# Altium schematic symbol library MCU_ST_STM32G0.SchLib: 228 symbols (part 3 of 5)
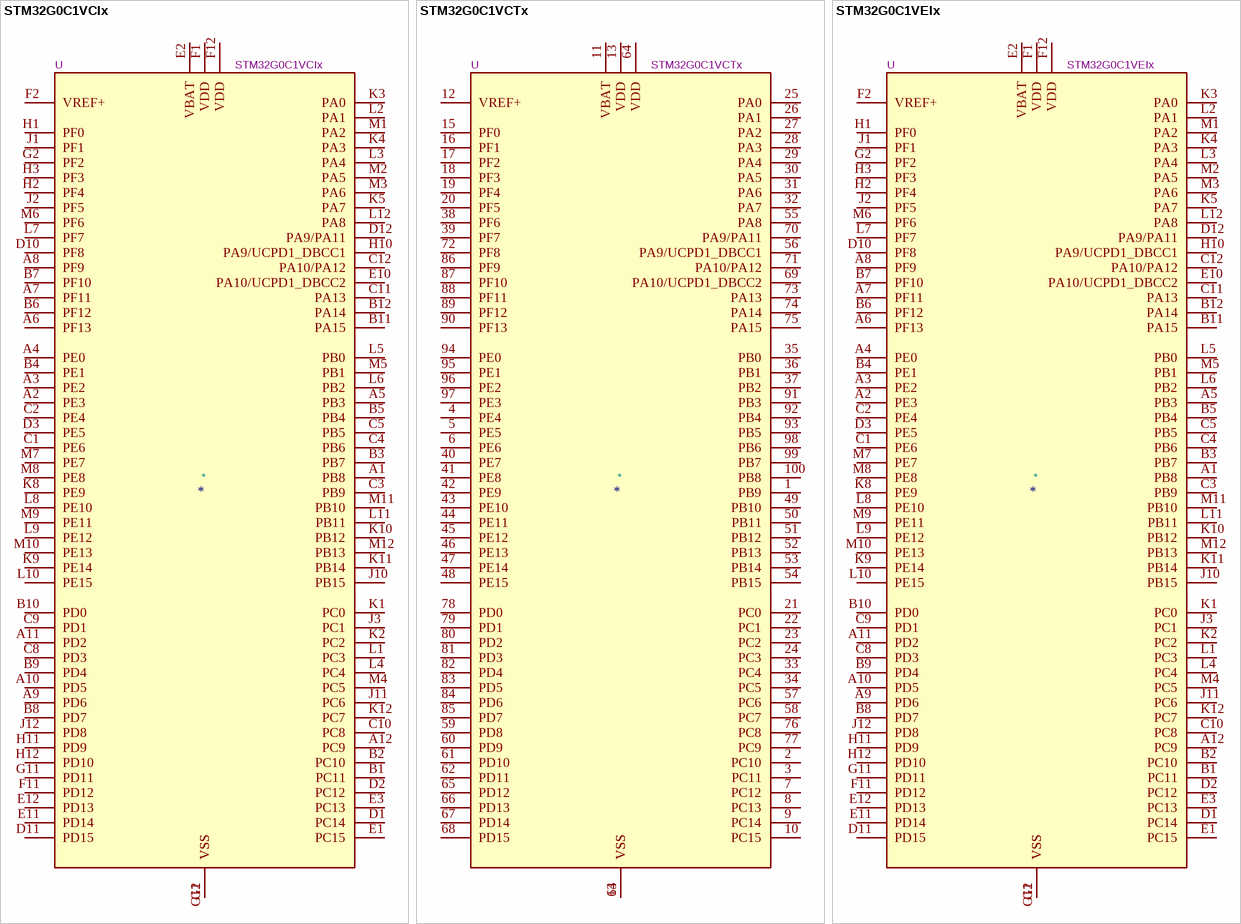
[diagram p25: symbols STM32G0C1VCIx to STM32G0C1VEIx]

## STM32G0C1VCIx
designator *  value STM32G0C1VCIx  Reference: U
STMicroelectronics Arm Cortex-M0+ MCU, 256KB flash, 144KB RAM, 64 MHz, 1.7-3.6V, 94 GPIO, UFBGA100; ki_keywords: Arm Cortex-M0+ STM32G0 STM32G0x1; ki_fp_filters: UFBGA*7x7mm*Layout12x12*P0.5mm*; Footprint: Package_BGA:UFBGA-100_7x7mm_Layout12x12_P0.5mm; Datasheet: https://www.st.com/resource/en/datasheet/stm32g0c1vc.pdf; Description_: STMicroelectronics Arm Cortex-M0+ MCU, 256KB flash, 144KB RAM, 64 MHz, 1.7-3.6V, 94 GPIO, UFBGA100
pins: A1 PB8, A2 PE3, A3 PE2, A4 PE0, A5 PB3, A6 PF13, A7 PF11, A8 PF9, A9 PD6, A10 PD5, A11 PD2, A12 PC9, B1 PC11, B2 PC10, B3 PB7, B4 PE1, B5 PB4, B6 PF12, B7 PF10, B8 PD7, B9 PD4, B10 PD0, B11 PA15, B12 PA14, C1 PE6, C2 PE4, C3 PB9, C4 PB6, C5 PB5, C8 PD3, C9 PD1, C10 PC8, C11 PA13, C12 PA10/PA12, D1 PC14, D2 PC12, D3 PE5, D10 PF8, D11 PD15, D12 PA9/PA11, E1 PC15, E2 VBAT, E3 PC13, E10 PA10/UCPD1_DBCC2, E11 PD14, E12 PD13, F1 VDD, F2 VREF+, F11 PD12, F12 VDD, G1 VSS, G2 PF2, G11 PD11, G12 VSS, H1 PF0, H2 PF4, H3 PF3, H10 PA9/UCPD1_DBCC1, H11 PD9, H12 PD10, J1 PF1, J2 PF5, J3 PC1, J10 PB15, J11 PC6, J12 PD8, K1 PC0, K2 PC2, K3 PA0, K4 PA3, K5 PA7, K8 PE9, K9 PE14, K10 PB12, K11 PB14, K12 PC7, L1 PC3, L2 PA1, L3 PA4, L4 PC4, L5 PB0, L6 PB2, L7 PF7, L8 PE10, L9 PE12, L10 PE15, L11 PB11, L12 PA8, M1 PA2, M2 PA5, M3 PA6, M4 PC5, M5 PB1, M6 PF6, M7 PE7, M8 PE8, M9 PE11, M10 PE13, M11 PB10, M12 PB13

## STM32G0C1VCTx
designator *  value STM32G0C1VCTx  Reference: U
STMicroelectronics Arm Cortex-M0+ MCU, 256KB flash, 144KB RAM, 64 MHz, 1.7-3.6V, 94 GPIO, LQFP100; ki_keywords: Arm Cortex-M0+ STM32G0 STM32G0x1; ki_fp_filters: LQFP*14x14mm*P0.5mm*; Footprint: Package_QFP:LQFP-100_14x14mm_P0.5mm; Datasheet: https://www.st.com/resource/en/datasheet/stm32g0c1vc.pdf; Description_: STMicroelectronics Arm Cortex-M0+ MCU, 256KB flash, 144KB RAM, 64 MHz, 1.7-3.6V, 94 GPIO, LQFP100
pins: 1 PB9, 2 PC10, 3 PC11, 4 PE4, 5 PE5, 6 PE6, 7 PC12, 8 PC13, 9 PC14, 10 PC15, 11 VBAT, 12 VREF+, 13 VDD, 14 VSS, 15 PF0, 16 PF1, 17 PF2, 18 PF3, 19 PF4, 20 PF5, 21 PC0, 22 PC1, 23 PC2, 24 PC3, 25 PA0, 26 PA1, 27 PA2, 28 PA3, 29 PA4, 30 PA5, 31 PA6, 32 PA7, 33 PC4, 34 PC5, 35 PB0, 36 PB1, 37 PB2, 38 PF6, 39 PF7, 40 PE7, 41 PE8, 42 PE9, 43 PE10, 44 PE11, 45 PE12, 46 PE13, 47 PE14, 48 PE15, 49 PB10, 50 PB11, 51 PB12, 52 PB13, 53 PB14, 54 PB15, 55 PA8, 56 PA9/UCPD1_DBCC1, 57 PC6, 58 PC7, 59 PD8, 60 PD9, 61 PD10, 62 PD11, 63 VSS, 64 VDD, 65 PD12, 66 PD13, 67 PD14, 68 PD15, 69 PA10/UCPD1_DBCC2, 70 PA9/PA11, 71 PA10/PA12, 72 PF8, 73 PA13, 74 PA14, 75 PA15, 76 PC8, 77 PC9, 78 PD0, 79 PD1, 80 PD2, 81 PD3, 82 PD4, 83 PD5, 84 PD6, 85 PD7, 86 PF9, 87 PF10, 88 PF11, 89 PF12, 90 PF13, 91 PB3, 92 PB4, 93 PB5, 94 PE0, 95 PE1, 96 PE2, 97 PE3, 98 PB6, 99 PB7, 100 PB8

## STM32G0C1VEIx
designator *  value STM32G0C1VEIx  Reference: U
STMicroelectronics Arm Cortex-M0+ MCU, 512KB flash, 144KB RAM, 64 MHz, 1.7-3.6V, 94 GPIO, UFBGA100; ki_keywords: Arm Cortex-M0+ STM32G0 STM32G0x1; ki_fp_filters: UFBGA*7x7mm*Layout12x12*P0.5mm*; Footprint: Package_BGA:UFBGA-100_7x7mm_Layout12x12_P0.5mm; Datasheet: https://www.st.com/resource/en/datasheet/stm32g0c1ve.pdf; Description_: STMicroelectronics Arm Cortex-M0+ MCU, 512KB flash, 144KB RAM, 64 MHz, 1.7-3.6V, 94 GPIO, UFBGA100
pins: A1 PB8, A2 PE3, A3 PE2, A4 PE0, A5 PB3, A6 PF13, A7 PF11, A8 PF9, A9 PD6, A10 PD5, A11 PD2, A12 PC9, B1 PC11, B2 PC10, B3 PB7, B4 PE1, B5 PB4, B6 PF12, B7 PF10, B8 PD7, B9 PD4, B10 PD0, B11 PA15, B12 PA14, C1 PE6, C2 PE4, C3 PB9, C4 PB6, C5 PB5, C8 PD3, C9 PD1, C10 PC8, C11 PA13, C12 PA10/PA12, D1 PC14, D2 PC12, D3 PE5, D10 PF8, D11 PD15, D12 PA9/PA11, E1 PC15, E2 VBAT, E3 PC13, E10 PA10/UCPD1_DBCC2, E11 PD14, E12 PD13, F1 VDD, F2 VREF+, F11 PD12, F12 VDD, G1 VSS, G2 PF2, G11 PD11, G12 VSS, H1 PF0, H2 PF4, H3 PF3, H10 PA9/UCPD1_DBCC1, H11 PD9, H12 PD10, J1 PF1, J2 PF5, J3 PC1, J10 PB15, J11 PC6, J12 PD8, K1 PC0, K2 PC2, K3 PA0, K4 PA3, K5 PA7, K8 PE9, K9 PE14, K10 PB12, K11 PB14, K12 PC7, L1 PC3, L2 PA1, L3 PA4, L4 PC4, L5 PB0, L6 PB2, L7 PF7, L8 PE10, L9 PE12, L10 PE15, L11 PB11, L12 PA8, M1 PA2, M2 PA5, M3 PA6, M4 PC5, M5 PB1, M6 PF6, M7 PE7, M8 PE8, M9 PE11, M10 PE13, M11 PB10, M12 PB13

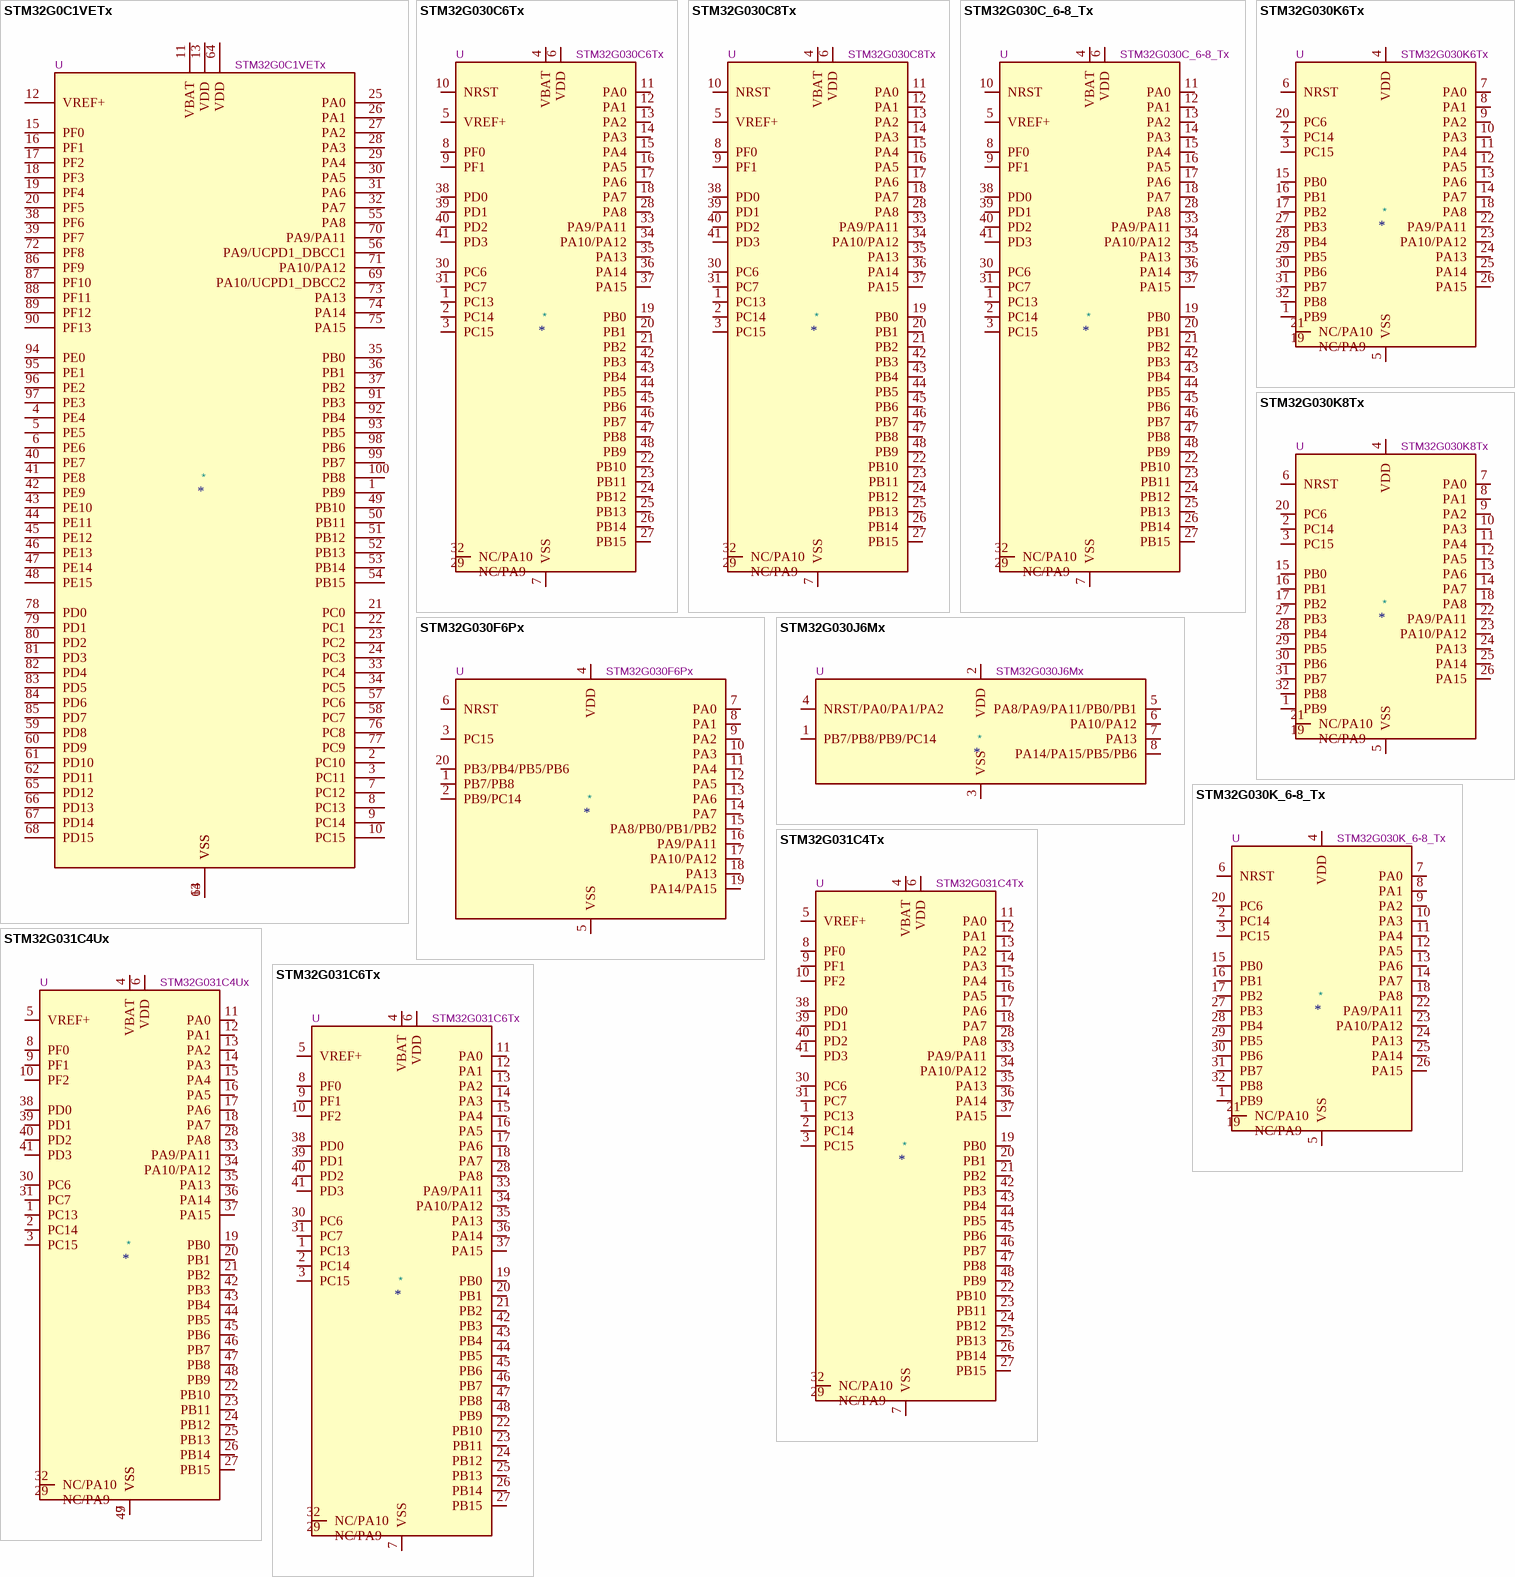
[diagram p14: symbols STM32G0C1VETx to STM32G031C6Tx]

## STM32G0C1VETx
designator *  value STM32G0C1VETx  Reference: U
STMicroelectronics Arm Cortex-M0+ MCU, 512KB flash, 144KB RAM, 64 MHz, 1.7-3.6V, 94 GPIO, LQFP100; ki_keywords: Arm Cortex-M0+ STM32G0 STM32G0x1; ki_fp_filters: LQFP*14x14mm*P0.5mm*; Footprint: Package_QFP:LQFP-100_14x14mm_P0.5mm; Datasheet: https://www.st.com/resource/en/datasheet/stm32g0c1ve.pdf; Description_: STMicroelectronics Arm Cortex-M0+ MCU, 512KB flash, 144KB RAM, 64 MHz, 1.7-3.6V, 94 GPIO, LQFP100
pins: 1 PB9, 2 PC10, 3 PC11, 4 PE4, 5 PE5, 6 PE6, 7 PC12, 8 PC13, 9 PC14, 10 PC15, 11 VBAT, 12 VREF+, 13 VDD, 14 VSS, 15 PF0, 16 PF1, 17 PF2, 18 PF3, 19 PF4, 20 PF5, 21 PC0, 22 PC1, 23 PC2, 24 PC3, 25 PA0, 26 PA1, 27 PA2, 28 PA3, 29 PA4, 30 PA5, 31 PA6, 32 PA7, 33 PC4, 34 PC5, 35 PB0, 36 PB1, 37 PB2, 38 PF6, 39 PF7, 40 PE7, 41 PE8, 42 PE9, 43 PE10, 44 PE11, 45 PE12, 46 PE13, 47 PE14, 48 PE15, 49 PB10, 50 PB11, 51 PB12, 52 PB13, 53 PB14, 54 PB15, 55 PA8, 56 PA9/UCPD1_DBCC1, 57 PC6, 58 PC7, 59 PD8, 60 PD9, 61 PD10, 62 PD11, 63 VSS, 64 VDD, 65 PD12, 66 PD13, 67 PD14, 68 PD15, 69 PA10/UCPD1_DBCC2, 70 PA9/PA11, 71 PA10/PA12, 72 PF8, 73 PA13, 74 PA14, 75 PA15, 76 PC8, 77 PC9, 78 PD0, 79 PD1, 80 PD2, 81 PD3, 82 PD4, 83 PD5, 84 PD6, 85 PD7, 86 PF9, 87 PF10, 88 PF11, 89 PF12, 90 PF13, 91 PB3, 92 PB4, 93 PB5, 94 PE0, 95 PE1, 96 PE2, 97 PE3, 98 PB6, 99 PB7, 100 PB8

## STM32G030C6Tx
designator *  value STM32G030C6Tx  Reference: U
STMicroelectronics Arm Cortex-M0+ MCU, 32KB flash, 8KB RAM, 64 MHz, 2.0-3.6V, 43 GPIO, LQFP48; ki_keywords: Arm Cortex-M0+ STM32G0 STM32G0x0 Value line; ki_fp_filters: LQFP*7x7mm*P0.5mm*; Footprint: Package_QFP:LQFP-48_7x7mm_P0.5mm; Datasheet: https://www.st.com/resource/en/datasheet/stm32g030c6.pdf; Description_: STMicroelectronics Arm Cortex-M0+ MCU, 32KB flash, 8KB RAM, 64 MHz, 2.0-3.6V, 43 GPIO, LQFP48
pins: 1 PC13, 2 PC14, 3 PC15, 4 VBAT, 5 VREF+, 6 VDD, 7 VSS, 8 PF0, 9 PF1, 10 NRST, 11 PA0, 12 PA1, 13 PA2, 14 PA3, 15 PA4, 16 PA5, 17 PA6, 18 PA7, 19 PB0, 20 PB1, 21 PB2, 22 PB10, 23 PB11, 24 PB12, 25 PB13, 26 PB14, 27 PB15, 28 PA8, 29 NC/PA9, 30 PC6, 31 PC7, 32 NC/PA10, 33 PA9/PA11, 34 PA10/PA12, 35 PA13, 36 PA14, 37 PA15, 38 PD0, 39 PD1, 40 PD2, 41 PD3, 42 PB3, 43 PB4, 44 PB5, 45 PB6, 46 PB7, 47 PB8, 48 PB9

## STM32G030C8Tx
designator *  value STM32G030C8Tx  Reference: U
STMicroelectronics Arm Cortex-M0+ MCU, 64KB flash, 8KB RAM, 64 MHz, 2.0-3.6V, 43 GPIO, LQFP48; ki_keywords: Arm Cortex-M0+ STM32G0 STM32G0x0 Value line; ki_fp_filters: LQFP*7x7mm*P0.5mm*; Footprint: Package_QFP:LQFP-48_7x7mm_P0.5mm; Datasheet: https://www.st.com/resource/en/datasheet/stm32g030c8.pdf; Description_: STMicroelectronics Arm Cortex-M0+ MCU, 64KB flash, 8KB RAM, 64 MHz, 2.0-3.6V, 43 GPIO, LQFP48
pins: 1 PC13, 2 PC14, 3 PC15, 4 VBAT, 5 VREF+, 6 VDD, 7 VSS, 8 PF0, 9 PF1, 10 NRST, 11 PA0, 12 PA1, 13 PA2, 14 PA3, 15 PA4, 16 PA5, 17 PA6, 18 PA7, 19 PB0, 20 PB1, 21 PB2, 22 PB10, 23 PB11, 24 PB12, 25 PB13, 26 PB14, 27 PB15, 28 PA8, 29 NC/PA9, 30 PC6, 31 PC7, 32 NC/PA10, 33 PA9/PA11, 34 PA10/PA12, 35 PA13, 36 PA14, 37 PA15, 38 PD0, 39 PD1, 40 PD2, 41 PD3, 42 PB3, 43 PB4, 44 PB5, 45 PB6, 46 PB7, 47 PB8, 48 PB9

## STM32G030C_6-8_Tx
designator *  value STM32G030C_6-8_Tx  Reference: U
STMicroelectronics Arm Cortex-M0+ MCU, 32-64KB flash, 8KB RAM, 64 MHz, 2.0-3.6V, 43 GPIO, LQFP48; ki_keywords: Arm Cortex-M0+ STM32G0 STM32G0x0 Value line; ki_fp_filters: LQFP*7x7mm*P0.5mm*; Footprint: Package_QFP:LQFP-48_7x7mm_P0.5mm; Datasheet: https://www.st.com/resource/en/datasheet/stm32g030c6.pdf; Description_: STMicroelectronics Arm Cortex-M0+ MCU, 32-64KB flash, 8KB RAM, 64 MHz, 2.0-3.6V, 43 GPIO, LQFP48
pins: 1 PC13, 2 PC14, 3 PC15, 4 VBAT, 5 VREF+, 6 VDD, 7 VSS, 8 PF0, 9 PF1, 10 NRST, 11 PA0, 12 PA1, 13 PA2, 14 PA3, 15 PA4, 16 PA5, 17 PA6, 18 PA7, 19 PB0, 20 PB1, 21 PB2, 22 PB10, 23 PB11, 24 PB12, 25 PB13, 26 PB14, 27 PB15, 28 PA8, 29 NC/PA9, 30 PC6, 31 PC7, 32 NC/PA10, 33 PA9/PA11, 34 PA10/PA12, 35 PA13, 36 PA14, 37 PA15, 38 PD0, 39 PD1, 40 PD2, 41 PD3, 42 PB3, 43 PB4, 44 PB5, 45 PB6, 46 PB7, 47 PB8, 48 PB9

## STM32G030F6Px
designator *  value STM32G030F6Px  Reference: U
STMicroelectronics Arm Cortex-M0+ MCU, 32KB flash, 8KB RAM, 64 MHz, 2.0-3.6V, 17 GPIO, TSSOP20; ki_keywords: Arm Cortex-M0+ STM32G0 STM32G0x0 Value line; ki_fp_filters: TSSOP*4.4x6.5mm*P0.65mm*; Footprint: Package_SO:TSSOP-20_4.4x6.5mm_P0.65mm; Datasheet: https://www.st.com/resource/en/datasheet/stm32g030f6.pdf; Description_: STMicroelectronics Arm Cortex-M0+ MCU, 32KB flash, 8KB RAM, 64 MHz, 2.0-3.6V, 17 GPIO, TSSOP20
pins: 1 PB7/PB8, 2 PB9/PC14, 3 PC15, 4 VDD, 5 VSS, 6 NRST, 7 PA0, 8 PA1, 9 PA2, 10 PA3, 11 PA4, 12 PA5, 13 PA6, 14 PA7, 15 PA8/PB0/PB1/PB2, 16 PA9/PA11, 17 PA10/PA12, 18 PA13, 19 PA14/PA15, 20 PB3/PB4/PB5/PB6

## STM32G030J6Mx
designator *  value STM32G030J6Mx  Reference: U
STMicroelectronics Arm Cortex-M0+ MCU, 32KB flash, 8KB RAM, 64 MHz, 2.0-3.6V, 6 GPIO, SO8N; ki_keywords: Arm Cortex-M0+ STM32G0 STM32G0x0 Value line; ki_fp_filters: SO*3.9x4.9mm*P1.27mm*; Footprint: Package_SO:SOIC-8_3.9x4.9mm_P1.27mm; Datasheet: https://www.st.com/resource/en/datasheet/stm32g030j6.pdf; Description_: STMicroelectronics Arm Cortex-M0+ MCU, 32KB flash, 8KB RAM, 64 MHz, 2.0-3.6V, 6 GPIO, SO8N
pins: 1 PB7/PB8/PB9/PC14, 2 VDD, 3 VSS, 4 NRST/PA0/PA1/PA2, 5 PA8/PA9/PA11/PB0/PB1, 6 PA10/PA12, 7 PA13, 8 PA14/PA15/PB5/PB6

## STM32G030K6Tx
designator *  value STM32G030K6Tx  Reference: U
STMicroelectronics Arm Cortex-M0+ MCU, 32KB flash, 8KB RAM, 64 MHz, 2.0-3.6V, 29 GPIO, LQFP32; ki_keywords: Arm Cortex-M0+ STM32G0 STM32G0x0 Value line; ki_fp_filters: LQFP*7x7mm*P0.8mm*; Footprint: Package_QFP:LQFP-32_7x7mm_P0.8mm; Datasheet: https://www.st.com/resource/en/datasheet/stm32g030k6.pdf; Description_: STMicroelectronics Arm Cortex-M0+ MCU, 32KB flash, 8KB RAM, 64 MHz, 2.0-3.6V, 29 GPIO, LQFP32
pins: 1 PB9, 2 PC14, 3 PC15, 4 VDD, 5 VSS, 6 NRST, 7 PA0, 8 PA1, 9 PA2, 10 PA3, 11 PA4, 12 PA5, 13 PA6, 14 PA7, 15 PB0, 16 PB1, 17 PB2, 18 PA8, 19 NC/PA9, 20 PC6, 21 NC/PA10, 22 PA9/PA11, 23 PA10/PA12, 24 PA13, 25 PA14, 26 PA15, 27 PB3, 28 PB4, 29 PB5, 30 PB6, 31 PB7, 32 PB8

## STM32G030K8Tx
designator *  value STM32G030K8Tx  Reference: U
STMicroelectronics Arm Cortex-M0+ MCU, 64KB flash, 8KB RAM, 64 MHz, 2.0-3.6V, 29 GPIO, LQFP32; ki_keywords: Arm Cortex-M0+ STM32G0 STM32G0x0 Value line; ki_fp_filters: LQFP*7x7mm*P0.8mm*; Footprint: Package_QFP:LQFP-32_7x7mm_P0.8mm; Datasheet: https://www.st.com/resource/en/datasheet/stm32g030k8.pdf; Description_: STMicroelectronics Arm Cortex-M0+ MCU, 64KB flash, 8KB RAM, 64 MHz, 2.0-3.6V, 29 GPIO, LQFP32
pins: 1 PB9, 2 PC14, 3 PC15, 4 VDD, 5 VSS, 6 NRST, 7 PA0, 8 PA1, 9 PA2, 10 PA3, 11 PA4, 12 PA5, 13 PA6, 14 PA7, 15 PB0, 16 PB1, 17 PB2, 18 PA8, 19 NC/PA9, 20 PC6, 21 NC/PA10, 22 PA9/PA11, 23 PA10/PA12, 24 PA13, 25 PA14, 26 PA15, 27 PB3, 28 PB4, 29 PB5, 30 PB6, 31 PB7, 32 PB8

## STM32G030K_6-8_Tx
designator *  value STM32G030K_6-8_Tx  Reference: U
STMicroelectronics Arm Cortex-M0+ MCU, 32-64KB flash, 8KB RAM, 64 MHz, 2.0-3.6V, 29 GPIO, LQFP32; ki_keywords: Arm Cortex-M0+ STM32G0 STM32G0x0 Value line; ki_fp_filters: LQFP*7x7mm*P0.8mm*; Footprint: Package_QFP:LQFP-32_7x7mm_P0.8mm; Datasheet: https://www.st.com/resource/en/datasheet/stm32g030k6.pdf; Description_: STMicroelectronics Arm Cortex-M0+ MCU, 32-64KB flash, 8KB RAM, 64 MHz, 2.0-3.6V, 29 GPIO, LQFP32
pins: 1 PB9, 2 PC14, 3 PC15, 4 VDD, 5 VSS, 6 NRST, 7 PA0, 8 PA1, 9 PA2, 10 PA3, 11 PA4, 12 PA5, 13 PA6, 14 PA7, 15 PB0, 16 PB1, 17 PB2, 18 PA8, 19 NC/PA9, 20 PC6, 21 NC/PA10, 22 PA9/PA11, 23 PA10/PA12, 24 PA13, 25 PA14, 26 PA15, 27 PB3, 28 PB4, 29 PB5, 30 PB6, 31 PB7, 32 PB8

## STM32G031C4Tx
designator *  value STM32G031C4Tx  Reference: U
STMicroelectronics Arm Cortex-M0+ MCU, 16KB flash, 8KB RAM, 64 MHz, 1.7-3.6V, 44 GPIO, LQFP48; ki_keywords: Arm Cortex-M0+ STM32G0 STM32G0x1; ki_fp_filters: LQFP*7x7mm*P0.5mm*; Footprint: Package_QFP:LQFP-48_7x7mm_P0.5mm; Datasheet: https://www.st.com/resource/en/datasheet/stm32g031c4.pdf; Description_: STMicroelectronics Arm Cortex-M0+ MCU, 16KB flash, 8KB RAM, 64 MHz, 1.7-3.6V, 44 GPIO, LQFP48
pins: 1 PC13, 2 PC14, 3 PC15, 4 VBAT, 5 VREF+, 6 VDD, 7 VSS, 8 PF0, 9 PF1, 10 PF2, 11 PA0, 12 PA1, 13 PA2, 14 PA3, 15 PA4, 16 PA5, 17 PA6, 18 PA7, 19 PB0, 20 PB1, 21 PB2, 22 PB10, 23 PB11, 24 PB12, 25 PB13, 26 PB14, 27 PB15, 28 PA8, 29 NC/PA9, 30 PC6, 31 PC7, 32 NC/PA10, 33 PA9/PA11, 34 PA10/PA12, 35 PA13, 36 PA14, 37 PA15, 38 PD0, 39 PD1, 40 PD2, 41 PD3, 42 PB3, 43 PB4, 44 PB5, 45 PB6, 46 PB7, 47 PB8, 48 PB9

## STM32G031C4Ux
designator *  value STM32G031C4Ux  Reference: U
STMicroelectronics Arm Cortex-M0+ MCU, 16KB flash, 8KB RAM, 64 MHz, 1.7-3.6V, 44 GPIO, UFQFPN48; ki_keywords: Arm Cortex-M0+ STM32G0 STM32G0x1; ki_fp_filters: QFN*1EP*7x7mm*P0.5mm*; Footprint: Package_DFN_QFN:QFN-48-1EP_7x7mm_P0.5mm_EP5.6x5.6mm; Datasheet: https://www.st.com/resource/en/datasheet/stm32g031c4.pdf; Description_: STMicroelectronics Arm Cortex-M0+ MCU, 16KB flash, 8KB RAM, 64 MHz, 1.7-3.6V, 44 GPIO, UFQFPN48
pins: 1 PC13, 2 PC14, 3 PC15, 4 VBAT, 5 VREF+, 6 VDD, 7 VSS, 8 PF0, 9 PF1, 10 PF2, 11 PA0, 12 PA1, 13 PA2, 14 PA3, 15 PA4, 16 PA5, 17 PA6, 18 PA7, 19 PB0, 20 PB1, 21 PB2, 22 PB10, 23 PB11, 24 PB12, 25 PB13, 26 PB14, 27 PB15, 28 PA8, 29 NC/PA9, 30 PC6, 31 PC7, 32 NC/PA10, 33 PA9/PA11, 34 PA10/PA12, 35 PA13, 36 PA14, 37 PA15, 38 PD0, 39 PD1, 40 PD2, 41 PD3, 42 PB3, 43 PB4, 44 PB5, 45 PB6, 46 PB7, 47 PB8, 48 PB9, 49 VSS

## STM32G031C6Tx
designator *  value STM32G031C6Tx  Reference: U
STMicroelectronics Arm Cortex-M0+ MCU, 32KB flash, 8KB RAM, 64 MHz, 1.7-3.6V, 44 GPIO, LQFP48; ki_keywords: Arm Cortex-M0+ STM32G0 STM32G0x1; ki_fp_filters: LQFP*7x7mm*P0.5mm*; Footprint: Package_QFP:LQFP-48_7x7mm_P0.5mm; Datasheet: https://www.st.com/resource/en/datasheet/stm32g031c6.pdf; Description_: STMicroelectronics Arm Cortex-M0+ MCU, 32KB flash, 8KB RAM, 64 MHz, 1.7-3.6V, 44 GPIO, LQFP48
pins: 1 PC13, 2 PC14, 3 PC15, 4 VBAT, 5 VREF+, 6 VDD, 7 VSS, 8 PF0, 9 PF1, 10 PF2, 11 PA0, 12 PA1, 13 PA2, 14 PA3, 15 PA4, 16 PA5, 17 PA6, 18 PA7, 19 PB0, 20 PB1, 21 PB2, 22 PB10, 23 PB11, 24 PB12, 25 PB13, 26 PB14, 27 PB15, 28 PA8, 29 NC/PA9, 30 PC6, 31 PC7, 32 NC/PA10, 33 PA9/PA11, 34 PA10/PA12, 35 PA13, 36 PA14, 37 PA15, 38 PD0, 39 PD1, 40 PD2, 41 PD3, 42 PB3, 43 PB4, 44 PB5, 45 PB6, 46 PB7, 47 PB8, 48 PB9

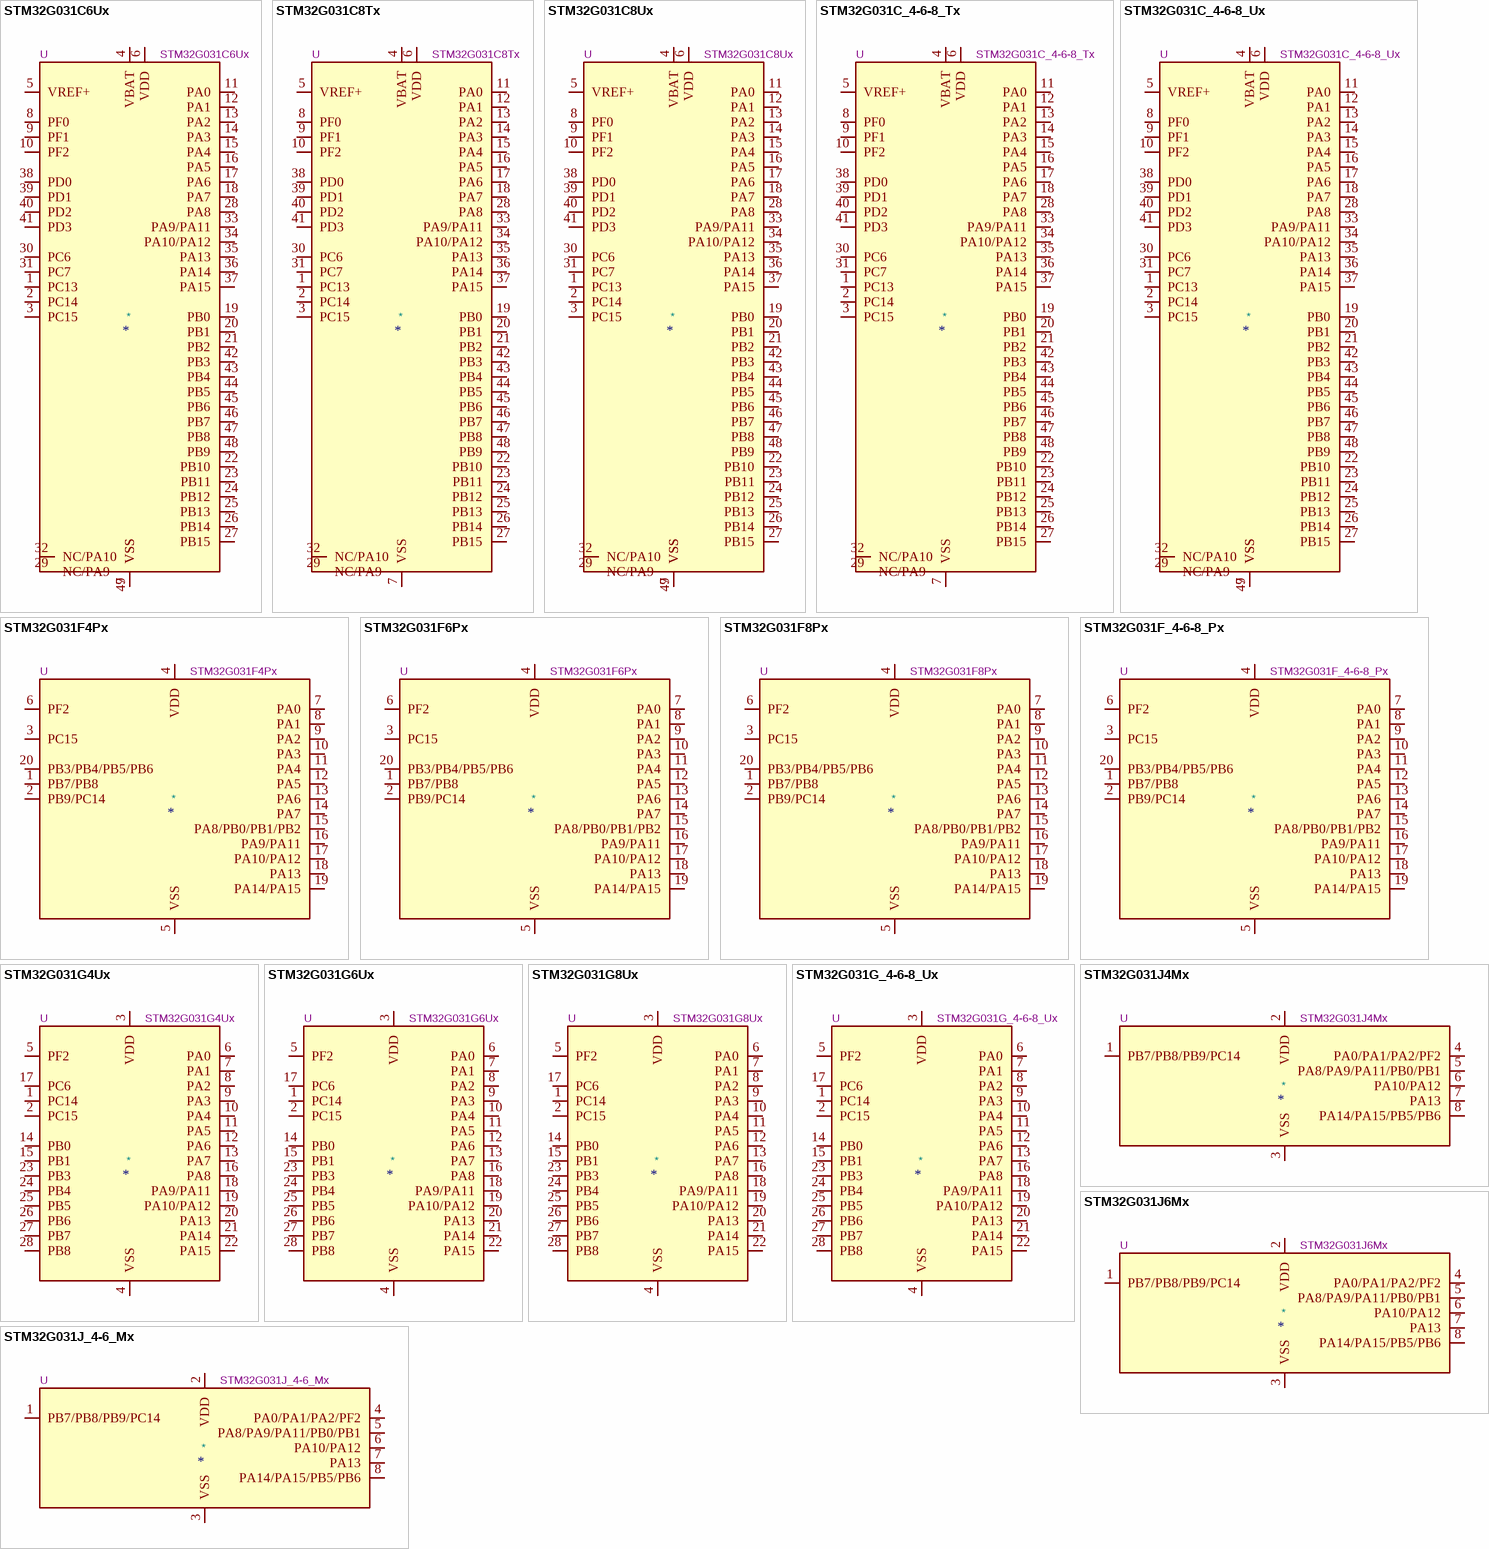
[diagram p15: symbols STM32G031C6Ux to STM32G031J_4-6_Mx]

## STM32G031C6Ux
designator *  value STM32G031C6Ux  Reference: U
STMicroelectronics Arm Cortex-M0+ MCU, 32KB flash, 8KB RAM, 64 MHz, 1.7-3.6V, 44 GPIO, UFQFPN48; ki_keywords: Arm Cortex-M0+ STM32G0 STM32G0x1; ki_fp_filters: QFN*1EP*7x7mm*P0.5mm*; Footprint: Package_DFN_QFN:QFN-48-1EP_7x7mm_P0.5mm_EP5.6x5.6mm; Datasheet: https://www.st.com/resource/en/datasheet/stm32g031c6.pdf; Description_: STMicroelectronics Arm Cortex-M0+ MCU, 32KB flash, 8KB RAM, 64 MHz, 1.7-3.6V, 44 GPIO, UFQFPN48
pins: 1 PC13, 2 PC14, 3 PC15, 4 VBAT, 5 VREF+, 6 VDD, 7 VSS, 8 PF0, 9 PF1, 10 PF2, 11 PA0, 12 PA1, 13 PA2, 14 PA3, 15 PA4, 16 PA5, 17 PA6, 18 PA7, 19 PB0, 20 PB1, 21 PB2, 22 PB10, 23 PB11, 24 PB12, 25 PB13, 26 PB14, 27 PB15, 28 PA8, 29 NC/PA9, 30 PC6, 31 PC7, 32 NC/PA10, 33 PA9/PA11, 34 PA10/PA12, 35 PA13, 36 PA14, 37 PA15, 38 PD0, 39 PD1, 40 PD2, 41 PD3, 42 PB3, 43 PB4, 44 PB5, 45 PB6, 46 PB7, 47 PB8, 48 PB9, 49 VSS

## STM32G031C8Tx
designator *  value STM32G031C8Tx  Reference: U
STMicroelectronics Arm Cortex-M0+ MCU, 64KB flash, 8KB RAM, 64 MHz, 1.7-3.6V, 44 GPIO, LQFP48; ki_keywords: Arm Cortex-M0+ STM32G0 STM32G0x1; ki_fp_filters: LQFP*7x7mm*P0.5mm*; Footprint: Package_QFP:LQFP-48_7x7mm_P0.5mm; Datasheet: https://www.st.com/resource/en/datasheet/stm32g031c8.pdf; Description_: STMicroelectronics Arm Cortex-M0+ MCU, 64KB flash, 8KB RAM, 64 MHz, 1.7-3.6V, 44 GPIO, LQFP48
pins: 1 PC13, 2 PC14, 3 PC15, 4 VBAT, 5 VREF+, 6 VDD, 7 VSS, 8 PF0, 9 PF1, 10 PF2, 11 PA0, 12 PA1, 13 PA2, 14 PA3, 15 PA4, 16 PA5, 17 PA6, 18 PA7, 19 PB0, 20 PB1, 21 PB2, 22 PB10, 23 PB11, 24 PB12, 25 PB13, 26 PB14, 27 PB15, 28 PA8, 29 NC/PA9, 30 PC6, 31 PC7, 32 NC/PA10, 33 PA9/PA11, 34 PA10/PA12, 35 PA13, 36 PA14, 37 PA15, 38 PD0, 39 PD1, 40 PD2, 41 PD3, 42 PB3, 43 PB4, 44 PB5, 45 PB6, 46 PB7, 47 PB8, 48 PB9

## STM32G031C8Ux
designator *  value STM32G031C8Ux  Reference: U
STMicroelectronics Arm Cortex-M0+ MCU, 64KB flash, 8KB RAM, 64 MHz, 1.7-3.6V, 44 GPIO, UFQFPN48; ki_keywords: Arm Cortex-M0+ STM32G0 STM32G0x1; ki_fp_filters: QFN*1EP*7x7mm*P0.5mm*; Footprint: Package_DFN_QFN:QFN-48-1EP_7x7mm_P0.5mm_EP5.6x5.6mm; Datasheet: https://www.st.com/resource/en/datasheet/stm32g031c8.pdf; Description_: STMicroelectronics Arm Cortex-M0+ MCU, 64KB flash, 8KB RAM, 64 MHz, 1.7-3.6V, 44 GPIO, UFQFPN48
pins: 1 PC13, 2 PC14, 3 PC15, 4 VBAT, 5 VREF+, 6 VDD, 7 VSS, 8 PF0, 9 PF1, 10 PF2, 11 PA0, 12 PA1, 13 PA2, 14 PA3, 15 PA4, 16 PA5, 17 PA6, 18 PA7, 19 PB0, 20 PB1, 21 PB2, 22 PB10, 23 PB11, 24 PB12, 25 PB13, 26 PB14, 27 PB15, 28 PA8, 29 NC/PA9, 30 PC6, 31 PC7, 32 NC/PA10, 33 PA9/PA11, 34 PA10/PA12, 35 PA13, 36 PA14, 37 PA15, 38 PD0, 39 PD1, 40 PD2, 41 PD3, 42 PB3, 43 PB4, 44 PB5, 45 PB6, 46 PB7, 47 PB8, 48 PB9, 49 VSS

## STM32G031C_4-6-8_Tx
designator *  value STM32G031C_4-6-8_Tx  Reference: U
STMicroelectronics Arm Cortex-M0+ MCU, 16-64KB flash, 8KB RAM, 64 MHz, 1.7-3.6V, 44 GPIO, LQFP48; ki_keywords: Arm Cortex-M0+ STM32G0 STM32G0x1; ki_fp_filters: LQFP*7x7mm*P0.5mm*; Footprint: Package_QFP:LQFP-48_7x7mm_P0.5mm; Datasheet: https://www.st.com/resource/en/datasheet/stm32g031c4.pdf; Description_: STMicroelectronics Arm Cortex-M0+ MCU, 16-64KB flash, 8KB RAM, 64 MHz, 1.7-3.6V, 44 GPIO, LQFP48
pins: 1 PC13, 2 PC14, 3 PC15, 4 VBAT, 5 VREF+, 6 VDD, 7 VSS, 8 PF0, 9 PF1, 10 PF2, 11 PA0, 12 PA1, 13 PA2, 14 PA3, 15 PA4, 16 PA5, 17 PA6, 18 PA7, 19 PB0, 20 PB1, 21 PB2, 22 PB10, 23 PB11, 24 PB12, 25 PB13, 26 PB14, 27 PB15, 28 PA8, 29 NC/PA9, 30 PC6, 31 PC7, 32 NC/PA10, 33 PA9/PA11, 34 PA10/PA12, 35 PA13, 36 PA14, 37 PA15, 38 PD0, 39 PD1, 40 PD2, 41 PD3, 42 PB3, 43 PB4, 44 PB5, 45 PB6, 46 PB7, 47 PB8, 48 PB9

## STM32G031C_4-6-8_Ux
designator *  value STM32G031C_4-6-8_Ux  Reference: U
STMicroelectronics Arm Cortex-M0+ MCU, 16-64KB flash, 8KB RAM, 64 MHz, 1.7-3.6V, 44 GPIO, UFQFPN48; ki_keywords: Arm Cortex-M0+ STM32G0 STM32G0x1; ki_fp_filters: QFN*1EP*7x7mm*P0.5mm*; Footprint: Package_DFN_QFN:QFN-48-1EP_7x7mm_P0.5mm_EP5.6x5.6mm; Datasheet: https://www.st.com/resource/en/datasheet/stm32g031c4.pdf; Description_: STMicroelectronics Arm Cortex-M0+ MCU, 16-64KB flash, 8KB RAM, 64 MHz, 1.7-3.6V, 44 GPIO, UFQFPN48
pins: 1 PC13, 2 PC14, 3 PC15, 4 VBAT, 5 VREF+, 6 VDD, 7 VSS, 8 PF0, 9 PF1, 10 PF2, 11 PA0, 12 PA1, 13 PA2, 14 PA3, 15 PA4, 16 PA5, 17 PA6, 18 PA7, 19 PB0, 20 PB1, 21 PB2, 22 PB10, 23 PB11, 24 PB12, 25 PB13, 26 PB14, 27 PB15, 28 PA8, 29 NC/PA9, 30 PC6, 31 PC7, 32 NC/PA10, 33 PA9/PA11, 34 PA10/PA12, 35 PA13, 36 PA14, 37 PA15, 38 PD0, 39 PD1, 40 PD2, 41 PD3, 42 PB3, 43 PB4, 44 PB5, 45 PB6, 46 PB7, 47 PB8, 48 PB9, 49 VSS

## STM32G031F4Px
designator *  value STM32G031F4Px  Reference: U
STMicroelectronics Arm Cortex-M0+ MCU, 16KB flash, 8KB RAM, 64 MHz, 1.7-3.6V, 18 GPIO, TSSOP20; ki_keywords: Arm Cortex-M0+ STM32G0 STM32G0x1; ki_fp_filters: TSSOP*4.4x6.5mm*P0.65mm*; Footprint: Package_SO:TSSOP-20_4.4x6.5mm_P0.65mm; Datasheet: https://www.st.com/resource/en/datasheet/stm32g031f4.pdf; Description_: STMicroelectronics Arm Cortex-M0+ MCU, 16KB flash, 8KB RAM, 64 MHz, 1.7-3.6V, 18 GPIO, TSSOP20
pins: 1 PB7/PB8, 2 PB9/PC14, 3 PC15, 4 VDD, 5 VSS, 6 PF2, 7 PA0, 8 PA1, 9 PA2, 10 PA3, 11 PA4, 12 PA5, 13 PA6, 14 PA7, 15 PA8/PB0/PB1/PB2, 16 PA9/PA11, 17 PA10/PA12, 18 PA13, 19 PA14/PA15, 20 PB3/PB4/PB5/PB6

## STM32G031F6Px
designator *  value STM32G031F6Px  Reference: U
STMicroelectronics Arm Cortex-M0+ MCU, 32KB flash, 8KB RAM, 64 MHz, 1.7-3.6V, 18 GPIO, TSSOP20; ki_keywords: Arm Cortex-M0+ STM32G0 STM32G0x1; ki_fp_filters: TSSOP*4.4x6.5mm*P0.65mm*; Footprint: Package_SO:TSSOP-20_4.4x6.5mm_P0.65mm; Datasheet: https://www.st.com/resource/en/datasheet/stm32g031f6.pdf; Description_: STMicroelectronics Arm Cortex-M0+ MCU, 32KB flash, 8KB RAM, 64 MHz, 1.7-3.6V, 18 GPIO, TSSOP20
pins: 1 PB7/PB8, 2 PB9/PC14, 3 PC15, 4 VDD, 5 VSS, 6 PF2, 7 PA0, 8 PA1, 9 PA2, 10 PA3, 11 PA4, 12 PA5, 13 PA6, 14 PA7, 15 PA8/PB0/PB1/PB2, 16 PA9/PA11, 17 PA10/PA12, 18 PA13, 19 PA14/PA15, 20 PB3/PB4/PB5/PB6

## STM32G031F8Px
designator *  value STM32G031F8Px  Reference: U
STMicroelectronics Arm Cortex-M0+ MCU, 64KB flash, 8KB RAM, 64 MHz, 1.7-3.6V, 18 GPIO, TSSOP20; ki_keywords: Arm Cortex-M0+ STM32G0 STM32G0x1; ki_fp_filters: TSSOP*4.4x6.5mm*P0.65mm*; Footprint: Package_SO:TSSOP-20_4.4x6.5mm_P0.65mm; Datasheet: https://www.st.com/resource/en/datasheet/stm32g031f8.pdf; Description_: STMicroelectronics Arm Cortex-M0+ MCU, 64KB flash, 8KB RAM, 64 MHz, 1.7-3.6V, 18 GPIO, TSSOP20
pins: 1 PB7/PB8, 2 PB9/PC14, 3 PC15, 4 VDD, 5 VSS, 6 PF2, 7 PA0, 8 PA1, 9 PA2, 10 PA3, 11 PA4, 12 PA5, 13 PA6, 14 PA7, 15 PA8/PB0/PB1/PB2, 16 PA9/PA11, 17 PA10/PA12, 18 PA13, 19 PA14/PA15, 20 PB3/PB4/PB5/PB6

## STM32G031F_4-6-8_Px
designator *  value STM32G031F_4-6-8_Px  Reference: U
STMicroelectronics Arm Cortex-M0+ MCU, 16-64KB flash, 8KB RAM, 64 MHz, 1.7-3.6V, 18 GPIO, TSSOP20; ki_keywords: Arm Cortex-M0+ STM32G0 STM32G0x1; ki_fp_filters: TSSOP*4.4x6.5mm*P0.65mm*; Footprint: Package_SO:TSSOP-20_4.4x6.5mm_P0.65mm; Datasheet: https://www.st.com/resource/en/datasheet/stm32g031f4.pdf; Description_: STMicroelectronics Arm Cortex-M0+ MCU, 16-64KB flash, 8KB RAM, 64 MHz, 1.7-3.6V, 18 GPIO, TSSOP20
pins: 1 PB7/PB8, 2 PB9/PC14, 3 PC15, 4 VDD, 5 VSS, 6 PF2, 7 PA0, 8 PA1, 9 PA2, 10 PA3, 11 PA4, 12 PA5, 13 PA6, 14 PA7, 15 PA8/PB0/PB1/PB2, 16 PA9/PA11, 17 PA10/PA12, 18 PA13, 19 PA14/PA15, 20 PB3/PB4/PB5/PB6

## STM32G031G4Ux
designator *  value STM32G031G4Ux  Reference: U
STMicroelectronics Arm Cortex-M0+ MCU, 16KB flash, 8KB RAM, 64 MHz, 1.7-3.6V, 26 GPIO, UFQFPN28; ki_keywords: Arm Cortex-M0+ STM32G0 STM32G0x1; ki_fp_filters: QFN*4x4mm*P0.5mm*; Footprint: Package_DFN_QFN:QFN-28_4x4mm_P0.5mm; Datasheet: https://www.st.com/resource/en/datasheet/stm32g031g4.pdf; Description_: STMicroelectronics Arm Cortex-M0+ MCU, 16KB flash, 8KB RAM, 64 MHz, 1.7-3.6V, 26 GPIO, UFQFPN28
pins: 1 PC14, 2 PC15, 3 VDD, 4 VSS, 5 PF2, 6 PA0, 7 PA1, 8 PA2, 9 PA3, 10 PA4, 11 PA5, 12 PA6, 13 PA7, 14 PB0, 15 PB1, 16 PA8, 17 PC6, 18 PA9/PA11, 19 PA10/PA12, 20 PA13, 21 PA14, 22 PA15, 23 PB3, 24 PB4, 25 PB5, 26 PB6, 27 PB7, 28 PB8

## STM32G031G6Ux
designator *  value STM32G031G6Ux  Reference: U
STMicroelectronics Arm Cortex-M0+ MCU, 32KB flash, 8KB RAM, 64 MHz, 1.7-3.6V, 26 GPIO, UFQFPN28; ki_keywords: Arm Cortex-M0+ STM32G0 STM32G0x1; ki_fp_filters: QFN*4x4mm*P0.5mm*; Footprint: Package_DFN_QFN:QFN-28_4x4mm_P0.5mm; Datasheet: https://www.st.com/resource/en/datasheet/stm32g031g6.pdf; Description_: STMicroelectronics Arm Cortex-M0+ MCU, 32KB flash, 8KB RAM, 64 MHz, 1.7-3.6V, 26 GPIO, UFQFPN28
pins: 1 PC14, 2 PC15, 3 VDD, 4 VSS, 5 PF2, 6 PA0, 7 PA1, 8 PA2, 9 PA3, 10 PA4, 11 PA5, 12 PA6, 13 PA7, 14 PB0, 15 PB1, 16 PA8, 17 PC6, 18 PA9/PA11, 19 PA10/PA12, 20 PA13, 21 PA14, 22 PA15, 23 PB3, 24 PB4, 25 PB5, 26 PB6, 27 PB7, 28 PB8

## STM32G031G8Ux
designator *  value STM32G031G8Ux  Reference: U
STMicroelectronics Arm Cortex-M0+ MCU, 64KB flash, 8KB RAM, 64 MHz, 1.7-3.6V, 26 GPIO, UFQFPN28; ki_keywords: Arm Cortex-M0+ STM32G0 STM32G0x1; ki_fp_filters: QFN*4x4mm*P0.5mm*; Footprint: Package_DFN_QFN:QFN-28_4x4mm_P0.5mm; Datasheet: https://www.st.com/resource/en/datasheet/stm32g031g8.pdf; Description_: STMicroelectronics Arm Cortex-M0+ MCU, 64KB flash, 8KB RAM, 64 MHz, 1.7-3.6V, 26 GPIO, UFQFPN28
pins: 1 PC14, 2 PC15, 3 VDD, 4 VSS, 5 PF2, 6 PA0, 7 PA1, 8 PA2, 9 PA3, 10 PA4, 11 PA5, 12 PA6, 13 PA7, 14 PB0, 15 PB1, 16 PA8, 17 PC6, 18 PA9/PA11, 19 PA10/PA12, 20 PA13, 21 PA14, 22 PA15, 23 PB3, 24 PB4, 25 PB5, 26 PB6, 27 PB7, 28 PB8

## STM32G031G_4-6-8_Ux
designator *  value STM32G031G_4-6-8_Ux  Reference: U
STMicroelectronics Arm Cortex-M0+ MCU, 16-64KB flash, 8KB RAM, 64 MHz, 1.7-3.6V, 26 GPIO, UFQFPN28; ki_keywords: Arm Cortex-M0+ STM32G0 STM32G0x1; ki_fp_filters: QFN*4x4mm*P0.5mm*; Footprint: Package_DFN_QFN:QFN-28_4x4mm_P0.5mm; Datasheet: https://www.st.com/resource/en/datasheet/stm32g031g4.pdf; Description_: STMicroelectronics Arm Cortex-M0+ MCU, 16-64KB flash, 8KB RAM, 64 MHz, 1.7-3.6V, 26 GPIO, UFQFPN28
pins: 1 PC14, 2 PC15, 3 VDD, 4 VSS, 5 PF2, 6 PA0, 7 PA1, 8 PA2, 9 PA3, 10 PA4, 11 PA5, 12 PA6, 13 PA7, 14 PB0, 15 PB1, 16 PA8, 17 PC6, 18 PA9/PA11, 19 PA10/PA12, 20 PA13, 21 PA14, 22 PA15, 23 PB3, 24 PB4, 25 PB5, 26 PB6, 27 PB7, 28 PB8

## STM32G031J4Mx
designator *  value STM32G031J4Mx  Reference: U
STMicroelectronics Arm Cortex-M0+ MCU, 16KB flash, 8KB RAM, 64 MHz, 1.7-3.6V, 6 GPIO, SO8N; ki_keywords: Arm Cortex-M0+ STM32G0 STM32G0x1; ki_fp_filters: SO*3.9x4.9mm*P1.27mm*; Footprint: Package_SO:SOIC-8_3.9x4.9mm_P1.27mm; Datasheet: https://www.st.com/resource/en/datasheet/stm32g031j4.pdf; Description_: STMicroelectronics Arm Cortex-M0+ MCU, 16KB flash, 8KB RAM, 64 MHz, 1.7-3.6V, 6 GPIO, SO8N
pins: 1 PB7/PB8/PB9/PC14, 2 VDD, 3 VSS, 4 PA0/PA1/PA2/PF2, 5 PA8/PA9/PA11/PB0/PB1, 6 PA10/PA12, 7 PA13, 8 PA14/PA15/PB5/PB6

## STM32G031J6Mx
designator *  value STM32G031J6Mx  Reference: U
STMicroelectronics Arm Cortex-M0+ MCU, 32KB flash, 8KB RAM, 64 MHz, 1.7-3.6V, 6 GPIO, SO8N; ki_keywords: Arm Cortex-M0+ STM32G0 STM32G0x1; ki_fp_filters: SO*3.9x4.9mm*P1.27mm*; Footprint: Package_SO:SOIC-8_3.9x4.9mm_P1.27mm; Datasheet: https://www.st.com/resource/en/datasheet/stm32g031j6.pdf; Description_: STMicroelectronics Arm Cortex-M0+ MCU, 32KB flash, 8KB RAM, 64 MHz, 1.7-3.6V, 6 GPIO, SO8N
pins: 1 PB7/PB8/PB9/PC14, 2 VDD, 3 VSS, 4 PA0/PA1/PA2/PF2, 5 PA8/PA9/PA11/PB0/PB1, 6 PA10/PA12, 7 PA13, 8 PA14/PA15/PB5/PB6

## STM32G031J_4-6_Mx
designator *  value STM32G031J_4-6_Mx  Reference: U
STMicroelectronics Arm Cortex-M0+ MCU, 16-32KB flash, 8KB RAM, 64 MHz, 1.7-3.6V, 6 GPIO, SO8N; ki_keywords: Arm Cortex-M0+ STM32G0 STM32G0x1; ki_fp_filters: SO*3.9x4.9mm*P1.27mm*; Footprint: Package_SO:SOIC-8_3.9x4.9mm_P1.27mm; Datasheet: https://www.st.com/resource/en/datasheet/stm32g031j4.pdf; Description_: STMicroelectronics Arm Cortex-M0+ MCU, 16-32KB flash, 8KB RAM, 64 MHz, 1.7-3.6V, 6 GPIO, SO8N
pins: 1 PB7/PB8/PB9/PC14, 2 VDD, 3 VSS, 4 PA0/PA1/PA2/PF2, 5 PA8/PA9/PA11/PB0/PB1, 6 PA10/PA12, 7 PA13, 8 PA14/PA15/PB5/PB6

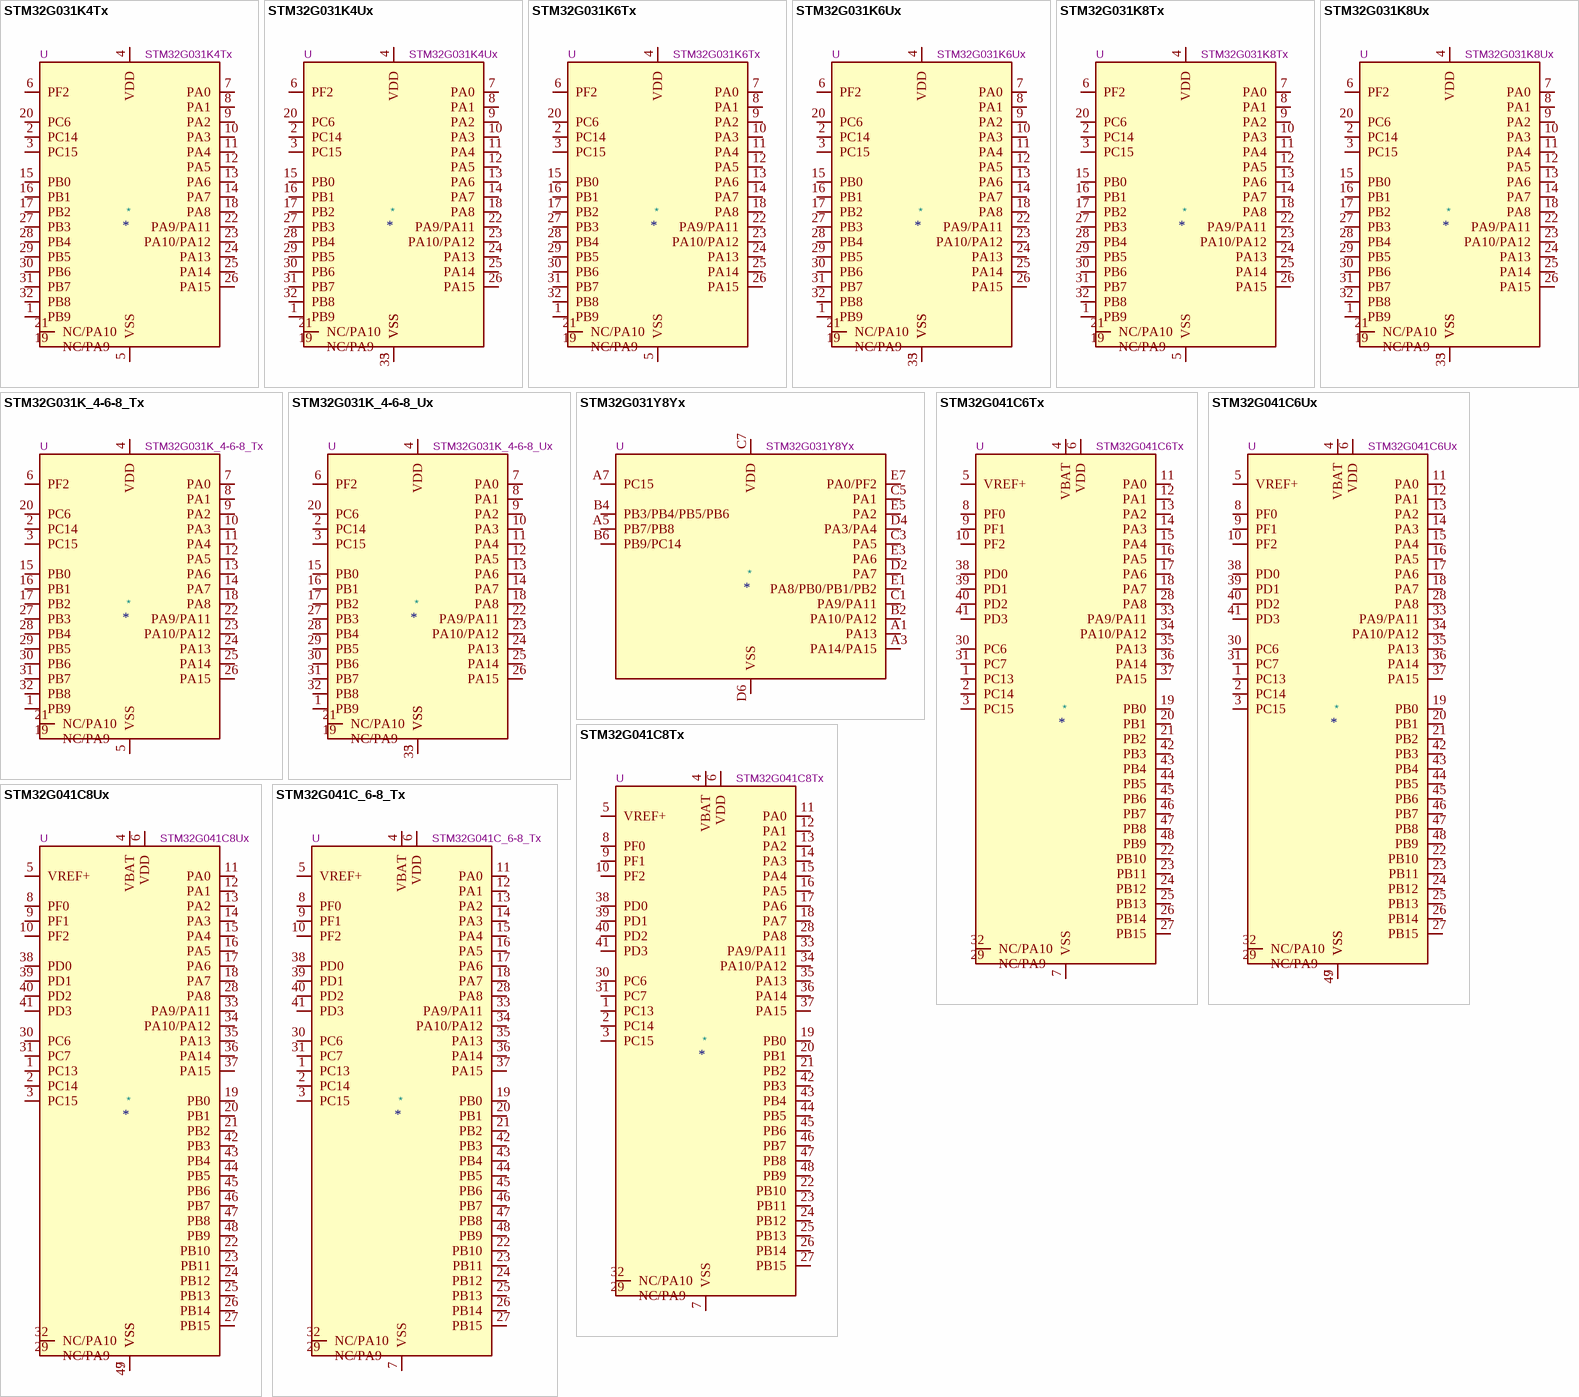
[diagram p16: symbols STM32G031K4Tx to STM32G041C_6-8_Tx]

## STM32G031K4Tx
designator *  value STM32G031K4Tx  Reference: U
STMicroelectronics Arm Cortex-M0+ MCU, 16KB flash, 8KB RAM, 64 MHz, 1.7-3.6V, 30 GPIO, LQFP32; ki_keywords: Arm Cortex-M0+ STM32G0 STM32G0x1; ki_fp_filters: LQFP*7x7mm*P0.8mm*; Footprint: Package_QFP:LQFP-32_7x7mm_P0.8mm; Datasheet: https://www.st.com/resource/en/datasheet/stm32g031k4.pdf; Description_: STMicroelectronics Arm Cortex-M0+ MCU, 16KB flash, 8KB RAM, 64 MHz, 1.7-3.6V, 30 GPIO, LQFP32
pins: 1 PB9, 2 PC14, 3 PC15, 4 VDD, 5 VSS, 6 PF2, 7 PA0, 8 PA1, 9 PA2, 10 PA3, 11 PA4, 12 PA5, 13 PA6, 14 PA7, 15 PB0, 16 PB1, 17 PB2, 18 PA8, 19 NC/PA9, 20 PC6, 21 NC/PA10, 22 PA9/PA11, 23 PA10/PA12, 24 PA13, 25 PA14, 26 PA15, 27 PB3, 28 PB4, 29 PB5, 30 PB6, 31 PB7, 32 PB8

## STM32G031K4Ux
designator *  value STM32G031K4Ux  Reference: U
STMicroelectronics Arm Cortex-M0+ MCU, 16KB flash, 8KB RAM, 64 MHz, 1.7-3.6V, 30 GPIO, UFQFPN32; ki_keywords: Arm Cortex-M0+ STM32G0 STM32G0x1; ki_fp_filters: QFN*1EP*5x5mm*P0.5mm*; Footprint: Package_DFN_QFN:QFN-32-1EP_5x5mm_P0.5mm_EP3.45x3.45mm; Datasheet: https://www.st.com/resource/en/datasheet/stm32g031k4.pdf; Description_: STMicroelectronics Arm Cortex-M0+ MCU, 16KB flash, 8KB RAM, 64 MHz, 1.7-3.6V, 30 GPIO, UFQFPN32
pins: 1 PB9, 2 PC14, 3 PC15, 4 VDD, 5 VSS, 6 PF2, 7 PA0, 8 PA1, 9 PA2, 10 PA3, 11 PA4, 12 PA5, 13 PA6, 14 PA7, 15 PB0, 16 PB1, 17 PB2, 18 PA8, 19 NC/PA9, 20 PC6, 21 NC/PA10, 22 PA9/PA11, 23 PA10/PA12, 24 PA13, 25 PA14, 26 PA15, 27 PB3, 28 PB4, 29 PB5, 30 PB6, 31 PB7, 32 PB8, 33 VSS

## STM32G031K6Tx
designator *  value STM32G031K6Tx  Reference: U
STMicroelectronics Arm Cortex-M0+ MCU, 32KB flash, 8KB RAM, 64 MHz, 1.7-3.6V, 30 GPIO, LQFP32; ki_keywords: Arm Cortex-M0+ STM32G0 STM32G0x1; ki_fp_filters: LQFP*7x7mm*P0.8mm*; Footprint: Package_QFP:LQFP-32_7x7mm_P0.8mm; Datasheet: https://www.st.com/resource/en/datasheet/stm32g031k6.pdf; Description_: STMicroelectronics Arm Cortex-M0+ MCU, 32KB flash, 8KB RAM, 64 MHz, 1.7-3.6V, 30 GPIO, LQFP32
pins: 1 PB9, 2 PC14, 3 PC15, 4 VDD, 5 VSS, 6 PF2, 7 PA0, 8 PA1, 9 PA2, 10 PA3, 11 PA4, 12 PA5, 13 PA6, 14 PA7, 15 PB0, 16 PB1, 17 PB2, 18 PA8, 19 NC/PA9, 20 PC6, 21 NC/PA10, 22 PA9/PA11, 23 PA10/PA12, 24 PA13, 25 PA14, 26 PA15, 27 PB3, 28 PB4, 29 PB5, 30 PB6, 31 PB7, 32 PB8

## STM32G031K6Ux
designator *  value STM32G031K6Ux  Reference: U
STMicroelectronics Arm Cortex-M0+ MCU, 32KB flash, 8KB RAM, 64 MHz, 1.7-3.6V, 30 GPIO, UFQFPN32; ki_keywords: Arm Cortex-M0+ STM32G0 STM32G0x1; ki_fp_filters: QFN*1EP*5x5mm*P0.5mm*; Footprint: Package_DFN_QFN:QFN-32-1EP_5x5mm_P0.5mm_EP3.45x3.45mm; Datasheet: https://www.st.com/resource/en/datasheet/stm32g031k6.pdf; Description_: STMicroelectronics Arm Cortex-M0+ MCU, 32KB flash, 8KB RAM, 64 MHz, 1.7-3.6V, 30 GPIO, UFQFPN32
pins: 1 PB9, 2 PC14, 3 PC15, 4 VDD, 5 VSS, 6 PF2, 7 PA0, 8 PA1, 9 PA2, 10 PA3, 11 PA4, 12 PA5, 13 PA6, 14 PA7, 15 PB0, 16 PB1, 17 PB2, 18 PA8, 19 NC/PA9, 20 PC6, 21 NC/PA10, 22 PA9/PA11, 23 PA10/PA12, 24 PA13, 25 PA14, 26 PA15, 27 PB3, 28 PB4, 29 PB5, 30 PB6, 31 PB7, 32 PB8, 33 VSS

## STM32G031K8Tx
designator *  value STM32G031K8Tx  Reference: U
STMicroelectronics Arm Cortex-M0+ MCU, 64KB flash, 8KB RAM, 64 MHz, 1.7-3.6V, 30 GPIO, LQFP32; ki_keywords: Arm Cortex-M0+ STM32G0 STM32G0x1; ki_fp_filters: LQFP*7x7mm*P0.8mm*; Footprint: Package_QFP:LQFP-32_7x7mm_P0.8mm; Datasheet: https://www.st.com/resource/en/datasheet/stm32g031k8.pdf; Description_: STMicroelectronics Arm Cortex-M0+ MCU, 64KB flash, 8KB RAM, 64 MHz, 1.7-3.6V, 30 GPIO, LQFP32
pins: 1 PB9, 2 PC14, 3 PC15, 4 VDD, 5 VSS, 6 PF2, 7 PA0, 8 PA1, 9 PA2, 10 PA3, 11 PA4, 12 PA5, 13 PA6, 14 PA7, 15 PB0, 16 PB1, 17 PB2, 18 PA8, 19 NC/PA9, 20 PC6, 21 NC/PA10, 22 PA9/PA11, 23 PA10/PA12, 24 PA13, 25 PA14, 26 PA15, 27 PB3, 28 PB4, 29 PB5, 30 PB6, 31 PB7, 32 PB8

## STM32G031K8Ux
designator *  value STM32G031K8Ux  Reference: U
STMicroelectronics Arm Cortex-M0+ MCU, 64KB flash, 8KB RAM, 64 MHz, 1.7-3.6V, 30 GPIO, UFQFPN32; ki_keywords: Arm Cortex-M0+ STM32G0 STM32G0x1; ki_fp_filters: QFN*1EP*5x5mm*P0.5mm*; Footprint: Package_DFN_QFN:QFN-32-1EP_5x5mm_P0.5mm_EP3.45x3.45mm; Datasheet: https://www.st.com/resource/en/datasheet/stm32g031k8.pdf; Description_: STMicroelectronics Arm Cortex-M0+ MCU, 64KB flash, 8KB RAM, 64 MHz, 1.7-3.6V, 30 GPIO, UFQFPN32
pins: 1 PB9, 2 PC14, 3 PC15, 4 VDD, 5 VSS, 6 PF2, 7 PA0, 8 PA1, 9 PA2, 10 PA3, 11 PA4, 12 PA5, 13 PA6, 14 PA7, 15 PB0, 16 PB1, 17 PB2, 18 PA8, 19 NC/PA9, 20 PC6, 21 NC/PA10, 22 PA9/PA11, 23 PA10/PA12, 24 PA13, 25 PA14, 26 PA15, 27 PB3, 28 PB4, 29 PB5, 30 PB6, 31 PB7, 32 PB8, 33 VSS

## STM32G031K_4-6-8_Tx
designator *  value STM32G031K_4-6-8_Tx  Reference: U
STMicroelectronics Arm Cortex-M0+ MCU, 16-64KB flash, 8KB RAM, 64 MHz, 1.7-3.6V, 30 GPIO, LQFP32; ki_keywords: Arm Cortex-M0+ STM32G0 STM32G0x1; ki_fp_filters: LQFP*7x7mm*P0.8mm*; Footprint: Package_QFP:LQFP-32_7x7mm_P0.8mm; Datasheet: https://www.st.com/resource/en/datasheet/stm32g031k4.pdf; Description_: STMicroelectronics Arm Cortex-M0+ MCU, 16-64KB flash, 8KB RAM, 64 MHz, 1.7-3.6V, 30 GPIO, LQFP32
pins: 1 PB9, 2 PC14, 3 PC15, 4 VDD, 5 VSS, 6 PF2, 7 PA0, 8 PA1, 9 PA2, 10 PA3, 11 PA4, 12 PA5, 13 PA6, 14 PA7, 15 PB0, 16 PB1, 17 PB2, 18 PA8, 19 NC/PA9, 20 PC6, 21 NC/PA10, 22 PA9/PA11, 23 PA10/PA12, 24 PA13, 25 PA14, 26 PA15, 27 PB3, 28 PB4, 29 PB5, 30 PB6, 31 PB7, 32 PB8

## STM32G031K_4-6-8_Ux
designator *  value STM32G031K_4-6-8_Ux  Reference: U
STMicroelectronics Arm Cortex-M0+ MCU, 16-64KB flash, 8KB RAM, 64 MHz, 1.7-3.6V, 30 GPIO, UFQFPN32; ki_keywords: Arm Cortex-M0+ STM32G0 STM32G0x1; ki_fp_filters: QFN*1EP*5x5mm*P0.5mm*; Footprint: Package_DFN_QFN:QFN-32-1EP_5x5mm_P0.5mm_EP3.45x3.45mm; Datasheet: https://www.st.com/resource/en/datasheet/stm32g031k4.pdf; Description_: STMicroelectronics Arm Cortex-M0+ MCU, 16-64KB flash, 8KB RAM, 64 MHz, 1.7-3.6V, 30 GPIO, UFQFPN32
pins: 1 PB9, 2 PC14, 3 PC15, 4 VDD, 5 VSS, 6 PF2, 7 PA0, 8 PA1, 9 PA2, 10 PA3, 11 PA4, 12 PA5, 13 PA6, 14 PA7, 15 PB0, 16 PB1, 17 PB2, 18 PA8, 19 NC/PA9, 20 PC6, 21 NC/PA10, 22 PA9/PA11, 23 PA10/PA12, 24 PA13, 25 PA14, 26 PA15, 27 PB3, 28 PB4, 29 PB5, 30 PB6, 31 PB7, 32 PB8, 33 VSS

## STM32G031Y8Yx
designator *  value STM32G031Y8Yx  Reference: U
STMicroelectronics Arm Cortex-M0+ MCU, 64KB flash, 8KB RAM, 64 MHz, 1.7-3.6V, 16 GPIO, WLCSP18; ki_keywords: Arm Cortex-M0+ STM32G0 STM32G0x1; ki_fp_filters: ST*WLCSP*1.86x2.14mm*Layout7x5*P0.4mm*Stagger*; Footprint: Package_CSP:ST_WLCSP-18_1.86x2.14mm_Layout7x5_P0.4mm_Stagger; Datasheet: https://www.st.com/resource/en/datasheet/stm32g031y8.pdf; Description_: STMicroelectronics Arm Cortex-M0+ MCU, 64KB flash, 8KB RAM, 64 MHz, 1.7-3.6V, 16 GPIO, WLCSP18
pins: A1 PA13, A3 PA14/PA15, A5 PB7/PB8, A7 PC15, B2 PA10/PA12, B4 PB3/PB4/PB5/PB6, B6 PB9/PC14, C1 PA9/PA11, C3 PA5, C5 PA1, C7 VDD, D2 PA7, D4 PA3/PA4, D6 VSS, E1 PA8/PB0/PB1/PB2, E3 PA6, E5 PA2, E7 PA0/PF2

## STM32G041C6Tx
designator *  value STM32G041C6Tx  Reference: U
STMicroelectronics Arm Cortex-M0+ MCU, 32KB flash, 8KB RAM, 64 MHz, 1.7-3.6V, 44 GPIO, LQFP48; ki_keywords: Arm Cortex-M0+ STM32G0 STM32G0x1; ki_fp_filters: LQFP*7x7mm*P0.5mm*; Footprint: Package_QFP:LQFP-48_7x7mm_P0.5mm; Datasheet: https://www.st.com/resource/en/datasheet/stm32g041c6.pdf; Description_: STMicroelectronics Arm Cortex-M0+ MCU, 32KB flash, 8KB RAM, 64 MHz, 1.7-3.6V, 44 GPIO, LQFP48
pins: 1 PC13, 2 PC14, 3 PC15, 4 VBAT, 5 VREF+, 6 VDD, 7 VSS, 8 PF0, 9 PF1, 10 PF2, 11 PA0, 12 PA1, 13 PA2, 14 PA3, 15 PA4, 16 PA5, 17 PA6, 18 PA7, 19 PB0, 20 PB1, 21 PB2, 22 PB10, 23 PB11, 24 PB12, 25 PB13, 26 PB14, 27 PB15, 28 PA8, 29 NC/PA9, 30 PC6, 31 PC7, 32 NC/PA10, 33 PA9/PA11, 34 PA10/PA12, 35 PA13, 36 PA14, 37 PA15, 38 PD0, 39 PD1, 40 PD2, 41 PD3, 42 PB3, 43 PB4, 44 PB5, 45 PB6, 46 PB7, 47 PB8, 48 PB9

## STM32G041C6Ux
designator *  value STM32G041C6Ux  Reference: U
STMicroelectronics Arm Cortex-M0+ MCU, 32KB flash, 8KB RAM, 64 MHz, 1.7-3.6V, 44 GPIO, UFQFPN48; ki_keywords: Arm Cortex-M0+ STM32G0 STM32G0x1; ki_fp_filters: QFN*1EP*7x7mm*P0.5mm*; Footprint: Package_DFN_QFN:QFN-48-1EP_7x7mm_P0.5mm_EP5.6x5.6mm; Datasheet: https://www.st.com/resource/en/datasheet/stm32g041c6.pdf; Description_: STMicroelectronics Arm Cortex-M0+ MCU, 32KB flash, 8KB RAM, 64 MHz, 1.7-3.6V, 44 GPIO, UFQFPN48
pins: 1 PC13, 2 PC14, 3 PC15, 4 VBAT, 5 VREF+, 6 VDD, 7 VSS, 8 PF0, 9 PF1, 10 PF2, 11 PA0, 12 PA1, 13 PA2, 14 PA3, 15 PA4, 16 PA5, 17 PA6, 18 PA7, 19 PB0, 20 PB1, 21 PB2, 22 PB10, 23 PB11, 24 PB12, 25 PB13, 26 PB14, 27 PB15, 28 PA8, 29 NC/PA9, 30 PC6, 31 PC7, 32 NC/PA10, 33 PA9/PA11, 34 PA10/PA12, 35 PA13, 36 PA14, 37 PA15, 38 PD0, 39 PD1, 40 PD2, 41 PD3, 42 PB3, 43 PB4, 44 PB5, 45 PB6, 46 PB7, 47 PB8, 48 PB9, 49 VSS

## STM32G041C8Tx
designator *  value STM32G041C8Tx  Reference: U
STMicroelectronics Arm Cortex-M0+ MCU, 64KB flash, 8KB RAM, 64 MHz, 1.7-3.6V, 44 GPIO, LQFP48; ki_keywords: Arm Cortex-M0+ STM32G0 STM32G0x1; ki_fp_filters: LQFP*7x7mm*P0.5mm*; Footprint: Package_QFP:LQFP-48_7x7mm_P0.5mm; Datasheet: https://www.st.com/resource/en/datasheet/stm32g041c8.pdf; Description_: STMicroelectronics Arm Cortex-M0+ MCU, 64KB flash, 8KB RAM, 64 MHz, 1.7-3.6V, 44 GPIO, LQFP48
pins: 1 PC13, 2 PC14, 3 PC15, 4 VBAT, 5 VREF+, 6 VDD, 7 VSS, 8 PF0, 9 PF1, 10 PF2, 11 PA0, 12 PA1, 13 PA2, 14 PA3, 15 PA4, 16 PA5, 17 PA6, 18 PA7, 19 PB0, 20 PB1, 21 PB2, 22 PB10, 23 PB11, 24 PB12, 25 PB13, 26 PB14, 27 PB15, 28 PA8, 29 NC/PA9, 30 PC6, 31 PC7, 32 NC/PA10, 33 PA9/PA11, 34 PA10/PA12, 35 PA13, 36 PA14, 37 PA15, 38 PD0, 39 PD1, 40 PD2, 41 PD3, 42 PB3, 43 PB4, 44 PB5, 45 PB6, 46 PB7, 47 PB8, 48 PB9

## STM32G041C8Ux
designator *  value STM32G041C8Ux  Reference: U
STMicroelectronics Arm Cortex-M0+ MCU, 64KB flash, 8KB RAM, 64 MHz, 1.7-3.6V, 44 GPIO, UFQFPN48; ki_keywords: Arm Cortex-M0+ STM32G0 STM32G0x1; ki_fp_filters: QFN*1EP*7x7mm*P0.5mm*; Footprint: Package_DFN_QFN:QFN-48-1EP_7x7mm_P0.5mm_EP5.6x5.6mm; Datasheet: https://www.st.com/resource/en/datasheet/stm32g041c8.pdf; Description_: STMicroelectronics Arm Cortex-M0+ MCU, 64KB flash, 8KB RAM, 64 MHz, 1.7-3.6V, 44 GPIO, UFQFPN48
pins: 1 PC13, 2 PC14, 3 PC15, 4 VBAT, 5 VREF+, 6 VDD, 7 VSS, 8 PF0, 9 PF1, 10 PF2, 11 PA0, 12 PA1, 13 PA2, 14 PA3, 15 PA4, 16 PA5, 17 PA6, 18 PA7, 19 PB0, 20 PB1, 21 PB2, 22 PB10, 23 PB11, 24 PB12, 25 PB13, 26 PB14, 27 PB15, 28 PA8, 29 NC/PA9, 30 PC6, 31 PC7, 32 NC/PA10, 33 PA9/PA11, 34 PA10/PA12, 35 PA13, 36 PA14, 37 PA15, 38 PD0, 39 PD1, 40 PD2, 41 PD3, 42 PB3, 43 PB4, 44 PB5, 45 PB6, 46 PB7, 47 PB8, 48 PB9, 49 VSS

## STM32G041C_6-8_Tx
designator *  value STM32G041C_6-8_Tx  Reference: U
STMicroelectronics Arm Cortex-M0+ MCU, 32-64KB flash, 8KB RAM, 64 MHz, 1.7-3.6V, 44 GPIO, LQFP48; ki_keywords: Arm Cortex-M0+ STM32G0 STM32G0x1; ki_fp_filters: LQFP*7x7mm*P0.5mm*; Footprint: Package_QFP:LQFP-48_7x7mm_P0.5mm; Datasheet: https://www.st.com/resource/en/datasheet/stm32g041c6.pdf; Description_: STMicroelectronics Arm Cortex-M0+ MCU, 32-64KB flash, 8KB RAM, 64 MHz, 1.7-3.6V, 44 GPIO, LQFP48
pins: 1 PC13, 2 PC14, 3 PC15, 4 VBAT, 5 VREF+, 6 VDD, 7 VSS, 8 PF0, 9 PF1, 10 PF2, 11 PA0, 12 PA1, 13 PA2, 14 PA3, 15 PA4, 16 PA5, 17 PA6, 18 PA7, 19 PB0, 20 PB1, 21 PB2, 22 PB10, 23 PB11, 24 PB12, 25 PB13, 26 PB14, 27 PB15, 28 PA8, 29 NC/PA9, 30 PC6, 31 PC7, 32 NC/PA10, 33 PA9/PA11, 34 PA10/PA12, 35 PA13, 36 PA14, 37 PA15, 38 PD0, 39 PD1, 40 PD2, 41 PD3, 42 PB3, 43 PB4, 44 PB5, 45 PB6, 46 PB7, 47 PB8, 48 PB9

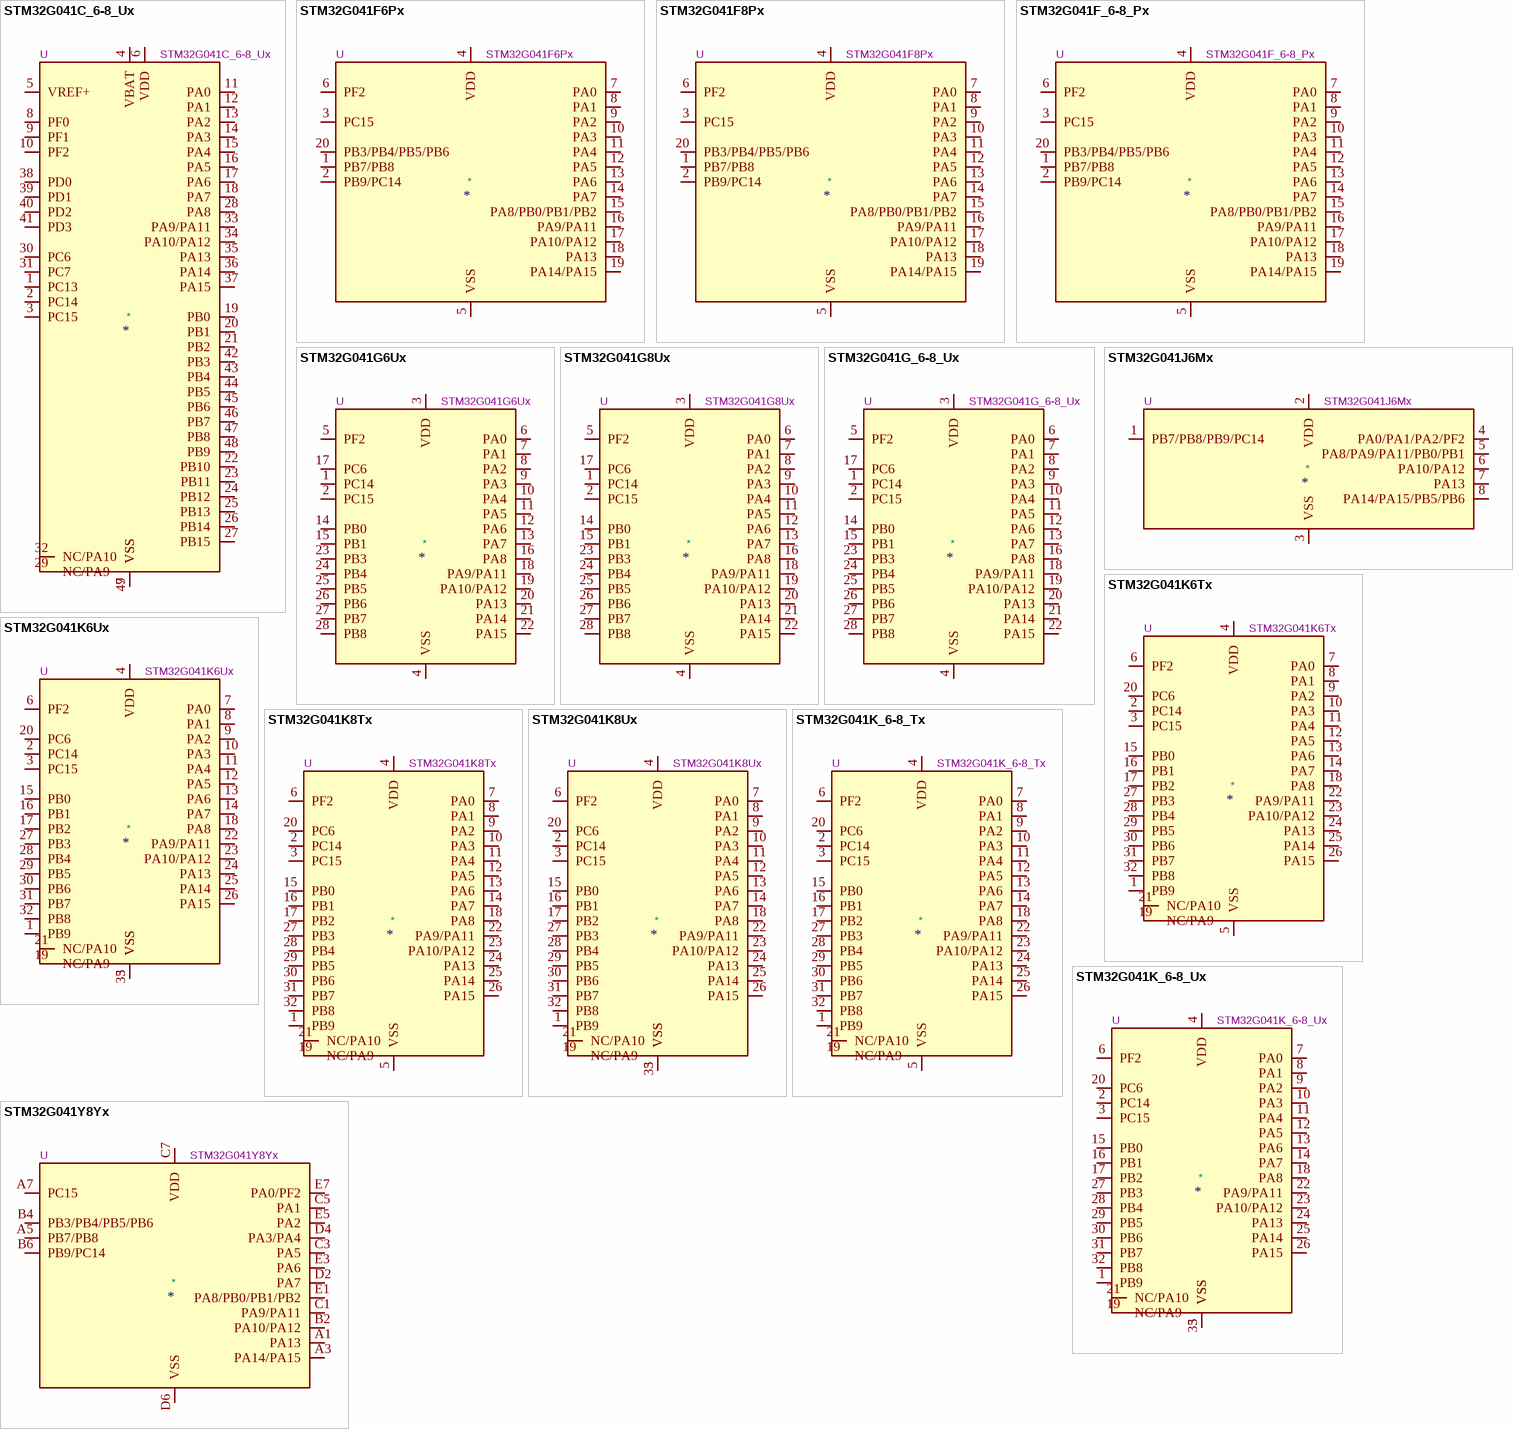
[diagram p17: symbols STM32G041C_6-8_Ux to STM32G041Y8Yx]

## STM32G041C_6-8_Ux
designator *  value STM32G041C_6-8_Ux  Reference: U
STMicroelectronics Arm Cortex-M0+ MCU, 32-64KB flash, 8KB RAM, 64 MHz, 1.7-3.6V, 44 GPIO, UFQFPN48; ki_keywords: Arm Cortex-M0+ STM32G0 STM32G0x1; ki_fp_filters: QFN*1EP*7x7mm*P0.5mm*; Footprint: Package_DFN_QFN:QFN-48-1EP_7x7mm_P0.5mm_EP5.6x5.6mm; Datasheet: https://www.st.com/resource/en/datasheet/stm32g041c6.pdf; Description_: STMicroelectronics Arm Cortex-M0+ MCU, 32-64KB flash, 8KB RAM, 64 MHz, 1.7-3.6V, 44 GPIO, UFQFPN48
pins: 1 PC13, 2 PC14, 3 PC15, 4 VBAT, 5 VREF+, 6 VDD, 7 VSS, 8 PF0, 9 PF1, 10 PF2, 11 PA0, 12 PA1, 13 PA2, 14 PA3, 15 PA4, 16 PA5, 17 PA6, 18 PA7, 19 PB0, 20 PB1, 21 PB2, 22 PB10, 23 PB11, 24 PB12, 25 PB13, 26 PB14, 27 PB15, 28 PA8, 29 NC/PA9, 30 PC6, 31 PC7, 32 NC/PA10, 33 PA9/PA11, 34 PA10/PA12, 35 PA13, 36 PA14, 37 PA15, 38 PD0, 39 PD1, 40 PD2, 41 PD3, 42 PB3, 43 PB4, 44 PB5, 45 PB6, 46 PB7, 47 PB8, 48 PB9, 49 VSS

## STM32G041F6Px
designator *  value STM32G041F6Px  Reference: U
STMicroelectronics Arm Cortex-M0+ MCU, 32KB flash, 8KB RAM, 64 MHz, 1.7-3.6V, 18 GPIO, TSSOP20; ki_keywords: Arm Cortex-M0+ STM32G0 STM32G0x1; ki_fp_filters: TSSOP*4.4x6.5mm*P0.65mm*; Footprint: Package_SO:TSSOP-20_4.4x6.5mm_P0.65mm; Datasheet: https://www.st.com/resource/en/datasheet/stm32g041f6.pdf; Description_: STMicroelectronics Arm Cortex-M0+ MCU, 32KB flash, 8KB RAM, 64 MHz, 1.7-3.6V, 18 GPIO, TSSOP20
pins: 1 PB7/PB8, 2 PB9/PC14, 3 PC15, 4 VDD, 5 VSS, 6 PF2, 7 PA0, 8 PA1, 9 PA2, 10 PA3, 11 PA4, 12 PA5, 13 PA6, 14 PA7, 15 PA8/PB0/PB1/PB2, 16 PA9/PA11, 17 PA10/PA12, 18 PA13, 19 PA14/PA15, 20 PB3/PB4/PB5/PB6

## STM32G041F8Px
designator *  value STM32G041F8Px  Reference: U
STMicroelectronics Arm Cortex-M0+ MCU, 64KB flash, 8KB RAM, 64 MHz, 1.7-3.6V, 18 GPIO, TSSOP20; ki_keywords: Arm Cortex-M0+ STM32G0 STM32G0x1; ki_fp_filters: TSSOP*4.4x6.5mm*P0.65mm*; Footprint: Package_SO:TSSOP-20_4.4x6.5mm_P0.65mm; Datasheet: https://www.st.com/resource/en/datasheet/stm32g041f8.pdf; Description_: STMicroelectronics Arm Cortex-M0+ MCU, 64KB flash, 8KB RAM, 64 MHz, 1.7-3.6V, 18 GPIO, TSSOP20
pins: 1 PB7/PB8, 2 PB9/PC14, 3 PC15, 4 VDD, 5 VSS, 6 PF2, 7 PA0, 8 PA1, 9 PA2, 10 PA3, 11 PA4, 12 PA5, 13 PA6, 14 PA7, 15 PA8/PB0/PB1/PB2, 16 PA9/PA11, 17 PA10/PA12, 18 PA13, 19 PA14/PA15, 20 PB3/PB4/PB5/PB6

## STM32G041F_6-8_Px
designator *  value STM32G041F_6-8_Px  Reference: U
STMicroelectronics Arm Cortex-M0+ MCU, 32-64KB flash, 8KB RAM, 64 MHz, 1.7-3.6V, 18 GPIO, TSSOP20; ki_keywords: Arm Cortex-M0+ STM32G0 STM32G0x1; ki_fp_filters: TSSOP*4.4x6.5mm*P0.65mm*; Footprint: Package_SO:TSSOP-20_4.4x6.5mm_P0.65mm; Datasheet: https://www.st.com/resource/en/datasheet/stm32g041f6.pdf; Description_: STMicroelectronics Arm Cortex-M0+ MCU, 32-64KB flash, 8KB RAM, 64 MHz, 1.7-3.6V, 18 GPIO, TSSOP20
pins: 1 PB7/PB8, 2 PB9/PC14, 3 PC15, 4 VDD, 5 VSS, 6 PF2, 7 PA0, 8 PA1, 9 PA2, 10 PA3, 11 PA4, 12 PA5, 13 PA6, 14 PA7, 15 PA8/PB0/PB1/PB2, 16 PA9/PA11, 17 PA10/PA12, 18 PA13, 19 PA14/PA15, 20 PB3/PB4/PB5/PB6

## STM32G041G6Ux
designator *  value STM32G041G6Ux  Reference: U
STMicroelectronics Arm Cortex-M0+ MCU, 32KB flash, 8KB RAM, 64 MHz, 1.7-3.6V, 26 GPIO, UFQFPN28; ki_keywords: Arm Cortex-M0+ STM32G0 STM32G0x1; ki_fp_filters: QFN*4x4mm*P0.5mm*; Footprint: Package_DFN_QFN:QFN-28_4x4mm_P0.5mm; Datasheet: https://www.st.com/resource/en/datasheet/stm32g041g6.pdf; Description_: STMicroelectronics Arm Cortex-M0+ MCU, 32KB flash, 8KB RAM, 64 MHz, 1.7-3.6V, 26 GPIO, UFQFPN28
pins: 1 PC14, 2 PC15, 3 VDD, 4 VSS, 5 PF2, 6 PA0, 7 PA1, 8 PA2, 9 PA3, 10 PA4, 11 PA5, 12 PA6, 13 PA7, 14 PB0, 15 PB1, 16 PA8, 17 PC6, 18 PA9/PA11, 19 PA10/PA12, 20 PA13, 21 PA14, 22 PA15, 23 PB3, 24 PB4, 25 PB5, 26 PB6, 27 PB7, 28 PB8

## STM32G041G8Ux
designator *  value STM32G041G8Ux  Reference: U
STMicroelectronics Arm Cortex-M0+ MCU, 64KB flash, 8KB RAM, 64 MHz, 1.7-3.6V, 26 GPIO, UFQFPN28; ki_keywords: Arm Cortex-M0+ STM32G0 STM32G0x1; ki_fp_filters: QFN*4x4mm*P0.5mm*; Footprint: Package_DFN_QFN:QFN-28_4x4mm_P0.5mm; Datasheet: https://www.st.com/resource/en/datasheet/stm32g041g8.pdf; Description_: STMicroelectronics Arm Cortex-M0+ MCU, 64KB flash, 8KB RAM, 64 MHz, 1.7-3.6V, 26 GPIO, UFQFPN28
pins: 1 PC14, 2 PC15, 3 VDD, 4 VSS, 5 PF2, 6 PA0, 7 PA1, 8 PA2, 9 PA3, 10 PA4, 11 PA5, 12 PA6, 13 PA7, 14 PB0, 15 PB1, 16 PA8, 17 PC6, 18 PA9/PA11, 19 PA10/PA12, 20 PA13, 21 PA14, 22 PA15, 23 PB3, 24 PB4, 25 PB5, 26 PB6, 27 PB7, 28 PB8

## STM32G041G_6-8_Ux
designator *  value STM32G041G_6-8_Ux  Reference: U
STMicroelectronics Arm Cortex-M0+ MCU, 32-64KB flash, 8KB RAM, 64 MHz, 1.7-3.6V, 26 GPIO, UFQFPN28; ki_keywords: Arm Cortex-M0+ STM32G0 STM32G0x1; ki_fp_filters: QFN*4x4mm*P0.5mm*; Footprint: Package_DFN_QFN:QFN-28_4x4mm_P0.5mm; Datasheet: https://www.st.com/resource/en/datasheet/stm32g041g6.pdf; Description_: STMicroelectronics Arm Cortex-M0+ MCU, 32-64KB flash, 8KB RAM, 64 MHz, 1.7-3.6V, 26 GPIO, UFQFPN28
pins: 1 PC14, 2 PC15, 3 VDD, 4 VSS, 5 PF2, 6 PA0, 7 PA1, 8 PA2, 9 PA3, 10 PA4, 11 PA5, 12 PA6, 13 PA7, 14 PB0, 15 PB1, 16 PA8, 17 PC6, 18 PA9/PA11, 19 PA10/PA12, 20 PA13, 21 PA14, 22 PA15, 23 PB3, 24 PB4, 25 PB5, 26 PB6, 27 PB7, 28 PB8

## STM32G041J6Mx
designator *  value STM32G041J6Mx  Reference: U
STMicroelectronics Arm Cortex-M0+ MCU, 32KB flash, 8KB RAM, 64 MHz, 1.7-3.6V, 6 GPIO, SO8N; ki_keywords: Arm Cortex-M0+ STM32G0 STM32G0x1; ki_fp_filters: SO*3.9x4.9mm*P1.27mm*; Footprint: Package_SO:SOIC-8_3.9x4.9mm_P1.27mm; Datasheet: https://www.st.com/resource/en/datasheet/stm32g041j6.pdf; Description_: STMicroelectronics Arm Cortex-M0+ MCU, 32KB flash, 8KB RAM, 64 MHz, 1.7-3.6V, 6 GPIO, SO8N
pins: 1 PB7/PB8/PB9/PC14, 2 VDD, 3 VSS, 4 PA0/PA1/PA2/PF2, 5 PA8/PA9/PA11/PB0/PB1, 6 PA10/PA12, 7 PA13, 8 PA14/PA15/PB5/PB6

## STM32G041K6Tx
designator *  value STM32G041K6Tx  Reference: U
STMicroelectronics Arm Cortex-M0+ MCU, 32KB flash, 8KB RAM, 64 MHz, 1.7-3.6V, 30 GPIO, LQFP32; ki_keywords: Arm Cortex-M0+ STM32G0 STM32G0x1; ki_fp_filters: LQFP*7x7mm*P0.8mm*; Footprint: Package_QFP:LQFP-32_7x7mm_P0.8mm; Datasheet: https://www.st.com/resource/en/datasheet/stm32g041k6.pdf; Description_: STMicroelectronics Arm Cortex-M0+ MCU, 32KB flash, 8KB RAM, 64 MHz, 1.7-3.6V, 30 GPIO, LQFP32
pins: 1 PB9, 2 PC14, 3 PC15, 4 VDD, 5 VSS, 6 PF2, 7 PA0, 8 PA1, 9 PA2, 10 PA3, 11 PA4, 12 PA5, 13 PA6, 14 PA7, 15 PB0, 16 PB1, 17 PB2, 18 PA8, 19 NC/PA9, 20 PC6, 21 NC/PA10, 22 PA9/PA11, 23 PA10/PA12, 24 PA13, 25 PA14, 26 PA15, 27 PB3, 28 PB4, 29 PB5, 30 PB6, 31 PB7, 32 PB8

## STM32G041K6Ux
designator *  value STM32G041K6Ux  Reference: U
STMicroelectronics Arm Cortex-M0+ MCU, 32KB flash, 8KB RAM, 64 MHz, 1.7-3.6V, 30 GPIO, UFQFPN32; ki_keywords: Arm Cortex-M0+ STM32G0 STM32G0x1; ki_fp_filters: QFN*1EP*5x5mm*P0.5mm*; Footprint: Package_DFN_QFN:QFN-32-1EP_5x5mm_P0.5mm_EP3.45x3.45mm; Datasheet: https://www.st.com/resource/en/datasheet/stm32g041k6.pdf; Description_: STMicroelectronics Arm Cortex-M0+ MCU, 32KB flash, 8KB RAM, 64 MHz, 1.7-3.6V, 30 GPIO, UFQFPN32
pins: 1 PB9, 2 PC14, 3 PC15, 4 VDD, 5 VSS, 6 PF2, 7 PA0, 8 PA1, 9 PA2, 10 PA3, 11 PA4, 12 PA5, 13 PA6, 14 PA7, 15 PB0, 16 PB1, 17 PB2, 18 PA8, 19 NC/PA9, 20 PC6, 21 NC/PA10, 22 PA9/PA11, 23 PA10/PA12, 24 PA13, 25 PA14, 26 PA15, 27 PB3, 28 PB4, 29 PB5, 30 PB6, 31 PB7, 32 PB8, 33 VSS

## STM32G041K8Tx
designator *  value STM32G041K8Tx  Reference: U
STMicroelectronics Arm Cortex-M0+ MCU, 64KB flash, 8KB RAM, 64 MHz, 1.7-3.6V, 30 GPIO, LQFP32; ki_keywords: Arm Cortex-M0+ STM32G0 STM32G0x1; ki_fp_filters: LQFP*7x7mm*P0.8mm*; Footprint: Package_QFP:LQFP-32_7x7mm_P0.8mm; Datasheet: https://www.st.com/resource/en/datasheet/stm32g041k8.pdf; Description_: STMicroelectronics Arm Cortex-M0+ MCU, 64KB flash, 8KB RAM, 64 MHz, 1.7-3.6V, 30 GPIO, LQFP32
pins: 1 PB9, 2 PC14, 3 PC15, 4 VDD, 5 VSS, 6 PF2, 7 PA0, 8 PA1, 9 PA2, 10 PA3, 11 PA4, 12 PA5, 13 PA6, 14 PA7, 15 PB0, 16 PB1, 17 PB2, 18 PA8, 19 NC/PA9, 20 PC6, 21 NC/PA10, 22 PA9/PA11, 23 PA10/PA12, 24 PA13, 25 PA14, 26 PA15, 27 PB3, 28 PB4, 29 PB5, 30 PB6, 31 PB7, 32 PB8

## STM32G041K8Ux
designator *  value STM32G041K8Ux  Reference: U
STMicroelectronics Arm Cortex-M0+ MCU, 64KB flash, 8KB RAM, 64 MHz, 1.7-3.6V, 30 GPIO, UFQFPN32; ki_keywords: Arm Cortex-M0+ STM32G0 STM32G0x1; ki_fp_filters: QFN*1EP*5x5mm*P0.5mm*; Footprint: Package_DFN_QFN:QFN-32-1EP_5x5mm_P0.5mm_EP3.45x3.45mm; Datasheet: https://www.st.com/resource/en/datasheet/stm32g041k8.pdf; Description_: STMicroelectronics Arm Cortex-M0+ MCU, 64KB flash, 8KB RAM, 64 MHz, 1.7-3.6V, 30 GPIO, UFQFPN32
pins: 1 PB9, 2 PC14, 3 PC15, 4 VDD, 5 VSS, 6 PF2, 7 PA0, 8 PA1, 9 PA2, 10 PA3, 11 PA4, 12 PA5, 13 PA6, 14 PA7, 15 PB0, 16 PB1, 17 PB2, 18 PA8, 19 NC/PA9, 20 PC6, 21 NC/PA10, 22 PA9/PA11, 23 PA10/PA12, 24 PA13, 25 PA14, 26 PA15, 27 PB3, 28 PB4, 29 PB5, 30 PB6, 31 PB7, 32 PB8, 33 VSS

## STM32G041K_6-8_Tx
designator *  value STM32G041K_6-8_Tx  Reference: U
STMicroelectronics Arm Cortex-M0+ MCU, 32-64KB flash, 8KB RAM, 64 MHz, 1.7-3.6V, 30 GPIO, LQFP32; ki_keywords: Arm Cortex-M0+ STM32G0 STM32G0x1; ki_fp_filters: LQFP*7x7mm*P0.8mm*; Footprint: Package_QFP:LQFP-32_7x7mm_P0.8mm; Datasheet: https://www.st.com/resource/en/datasheet/stm32g041k6.pdf; Description_: STMicroelectronics Arm Cortex-M0+ MCU, 32-64KB flash, 8KB RAM, 64 MHz, 1.7-3.6V, 30 GPIO, LQFP32
pins: 1 PB9, 2 PC14, 3 PC15, 4 VDD, 5 VSS, 6 PF2, 7 PA0, 8 PA1, 9 PA2, 10 PA3, 11 PA4, 12 PA5, 13 PA6, 14 PA7, 15 PB0, 16 PB1, 17 PB2, 18 PA8, 19 NC/PA9, 20 PC6, 21 NC/PA10, 22 PA9/PA11, 23 PA10/PA12, 24 PA13, 25 PA14, 26 PA15, 27 PB3, 28 PB4, 29 PB5, 30 PB6, 31 PB7, 32 PB8

## STM32G041K_6-8_Ux
designator *  value STM32G041K_6-8_Ux  Reference: U
STMicroelectronics Arm Cortex-M0+ MCU, 32-64KB flash, 8KB RAM, 64 MHz, 1.7-3.6V, 30 GPIO, UFQFPN32; ki_keywords: Arm Cortex-M0+ STM32G0 STM32G0x1; ki_fp_filters: QFN*1EP*5x5mm*P0.5mm*; Footprint: Package_DFN_QFN:QFN-32-1EP_5x5mm_P0.5mm_EP3.45x3.45mm; Datasheet: https://www.st.com/resource/en/datasheet/stm32g041k6.pdf; Description_: STMicroelectronics Arm Cortex-M0+ MCU, 32-64KB flash, 8KB RAM, 64 MHz, 1.7-3.6V, 30 GPIO, UFQFPN32
pins: 1 PB9, 2 PC14, 3 PC15, 4 VDD, 5 VSS, 6 PF2, 7 PA0, 8 PA1, 9 PA2, 10 PA3, 11 PA4, 12 PA5, 13 PA6, 14 PA7, 15 PB0, 16 PB1, 17 PB2, 18 PA8, 19 NC/PA9, 20 PC6, 21 NC/PA10, 22 PA9/PA11, 23 PA10/PA12, 24 PA13, 25 PA14, 26 PA15, 27 PB3, 28 PB4, 29 PB5, 30 PB6, 31 PB7, 32 PB8, 33 VSS

## STM32G041Y8Yx
designator *  value STM32G041Y8Yx  Reference: U
STMicroelectronics Arm Cortex-M0+ MCU, 64KB flash, 8KB RAM, 64 MHz, 1.7-3.6V, 16 GPIO, WLCSP18; ki_keywords: Arm Cortex-M0+ STM32G0 STM32G0x1; ki_fp_filters: ST*WLCSP*1.86x2.14mm*Layout7x5*P0.4mm*Stagger*; Footprint: Package_CSP:ST_WLCSP-18_1.86x2.14mm_Layout7x5_P0.4mm_Stagger; Datasheet: https://www.st.com/resource/en/datasheet/stm32g041y8.pdf; Description_: STMicroelectronics Arm Cortex-M0+ MCU, 64KB flash, 8KB RAM, 64 MHz, 1.7-3.6V, 16 GPIO, WLCSP18
pins: A1 PA13, A3 PA14/PA15, A5 PB7/PB8, A7 PC15, B2 PA10/PA12, B4 PB3/PB4/PB5/PB6, B6 PB9/PC14, C1 PA9/PA11, C3 PA5, C5 PA1, C7 VDD, D2 PA7, D4 PA3/PA4, D6 VSS, E1 PA8/PB0/PB1/PB2, E3 PA6, E5 PA2, E7 PA0/PF2

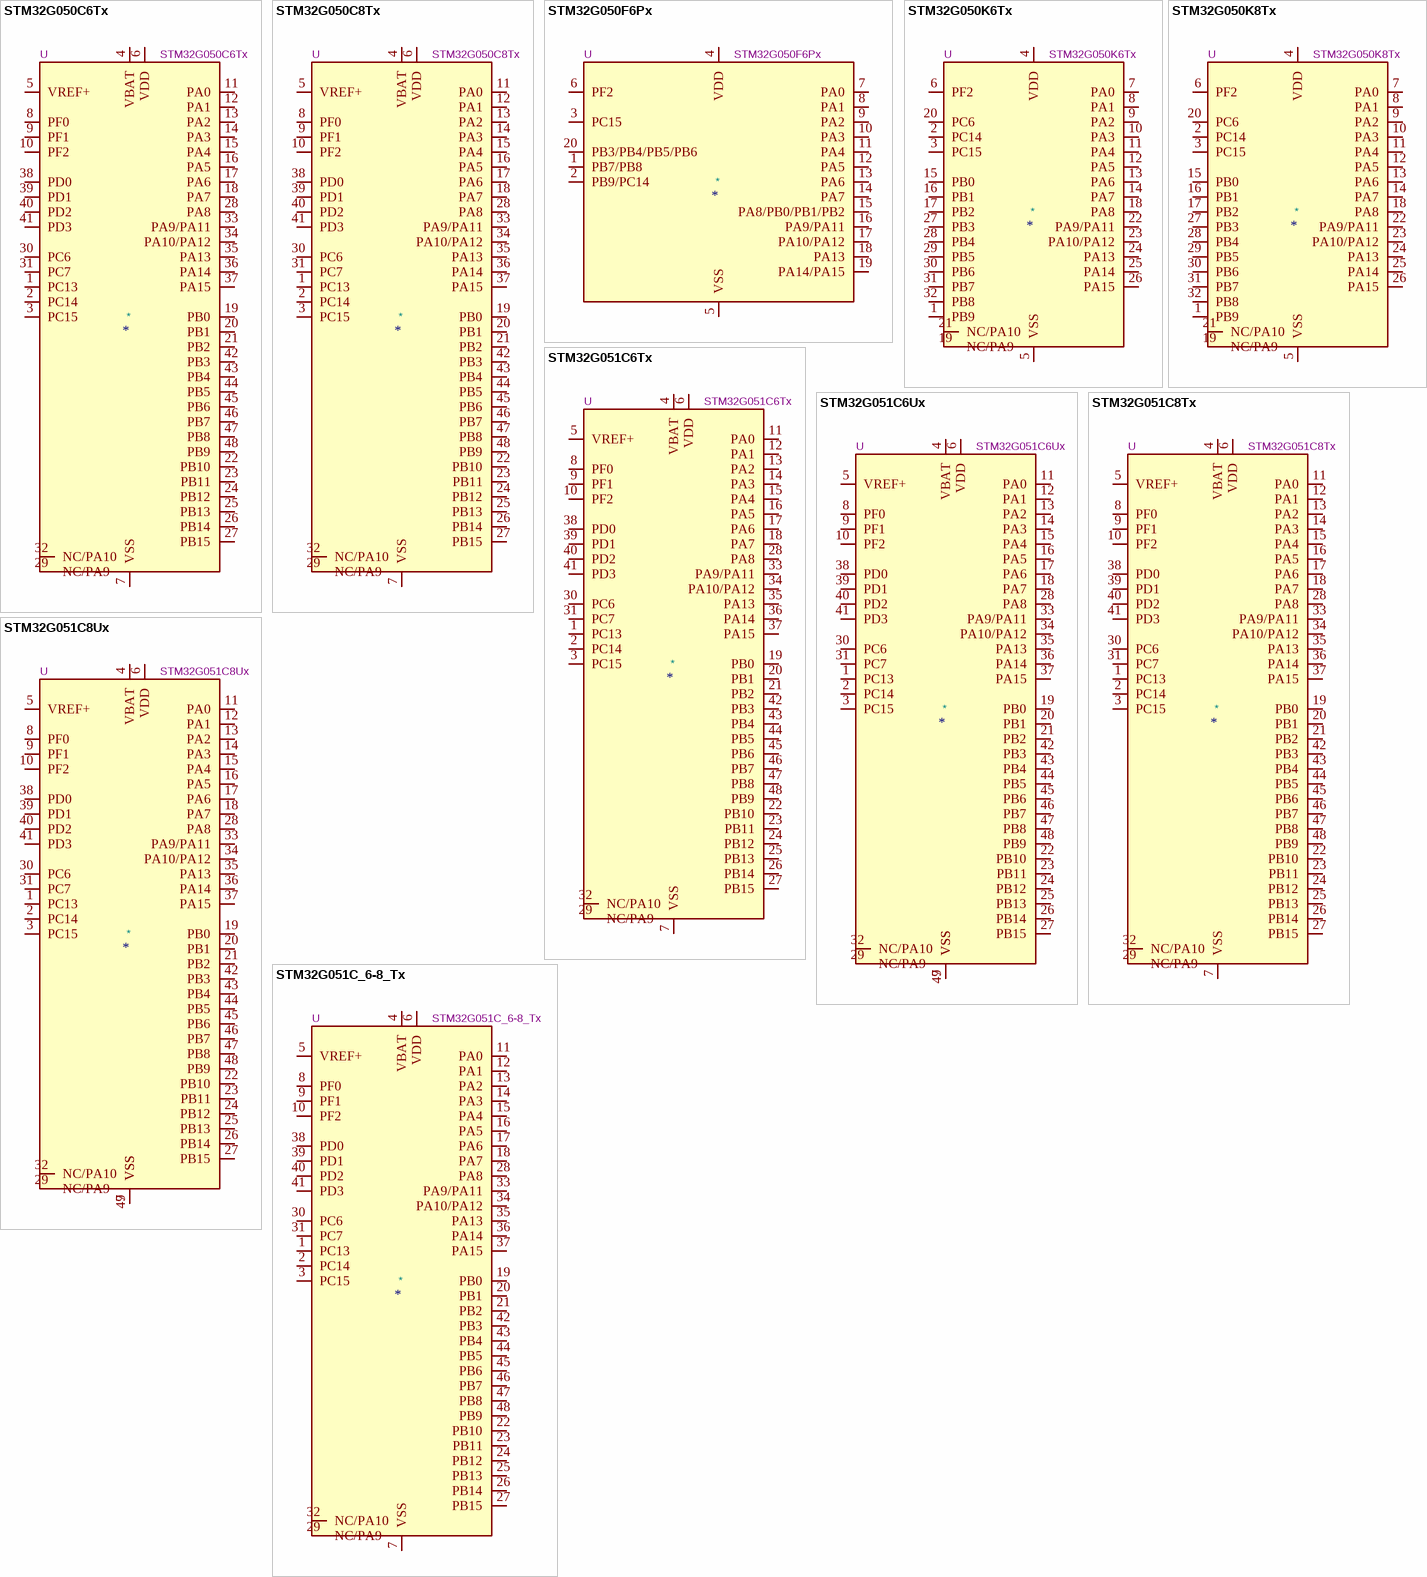
[diagram p18: symbols STM32G050C6Tx to STM32G051C_6-8_Tx]

## STM32G050C6Tx
designator *  value STM32G050C6Tx  Reference: U
STMicroelectronics Arm Cortex-M0+ MCU, 32KB flash, 18KB RAM, 64 MHz, 2.0-3.6V, 44 GPIO, LQFP48; ki_keywords: Arm Cortex-M0+ STM32G0 STM32G0x0 Value line; ki_fp_filters: LQFP*7x7mm*P0.5mm*; Footprint: Package_QFP:LQFP-48_7x7mm_P0.5mm; Datasheet: https://www.st.com/resource/en/datasheet/stm32g050c6.pdf; Description_: STMicroelectronics Arm Cortex-M0+ MCU, 32KB flash, 18KB RAM, 64 MHz, 2.0-3.6V, 44 GPIO, LQFP48
pins: 1 PC13, 2 PC14, 3 PC15, 4 VBAT, 5 VREF+, 6 VDD, 7 VSS, 8 PF0, 9 PF1, 10 PF2, 11 PA0, 12 PA1, 13 PA2, 14 PA3, 15 PA4, 16 PA5, 17 PA6, 18 PA7, 19 PB0, 20 PB1, 21 PB2, 22 PB10, 23 PB11, 24 PB12, 25 PB13, 26 PB14, 27 PB15, 28 PA8, 29 NC/PA9, 30 PC6, 31 PC7, 32 NC/PA10, 33 PA9/PA11, 34 PA10/PA12, 35 PA13, 36 PA14, 37 PA15, 38 PD0, 39 PD1, 40 PD2, 41 PD3, 42 PB3, 43 PB4, 44 PB5, 45 PB6, 46 PB7, 47 PB8, 48 PB9